# Altium schematic symbol library MCU_Microchip_AVR_Dx.SchLib: 50 symbols (part 1 of 2)
Pins are listed as number, name and electrical type; pins without a type are passive.

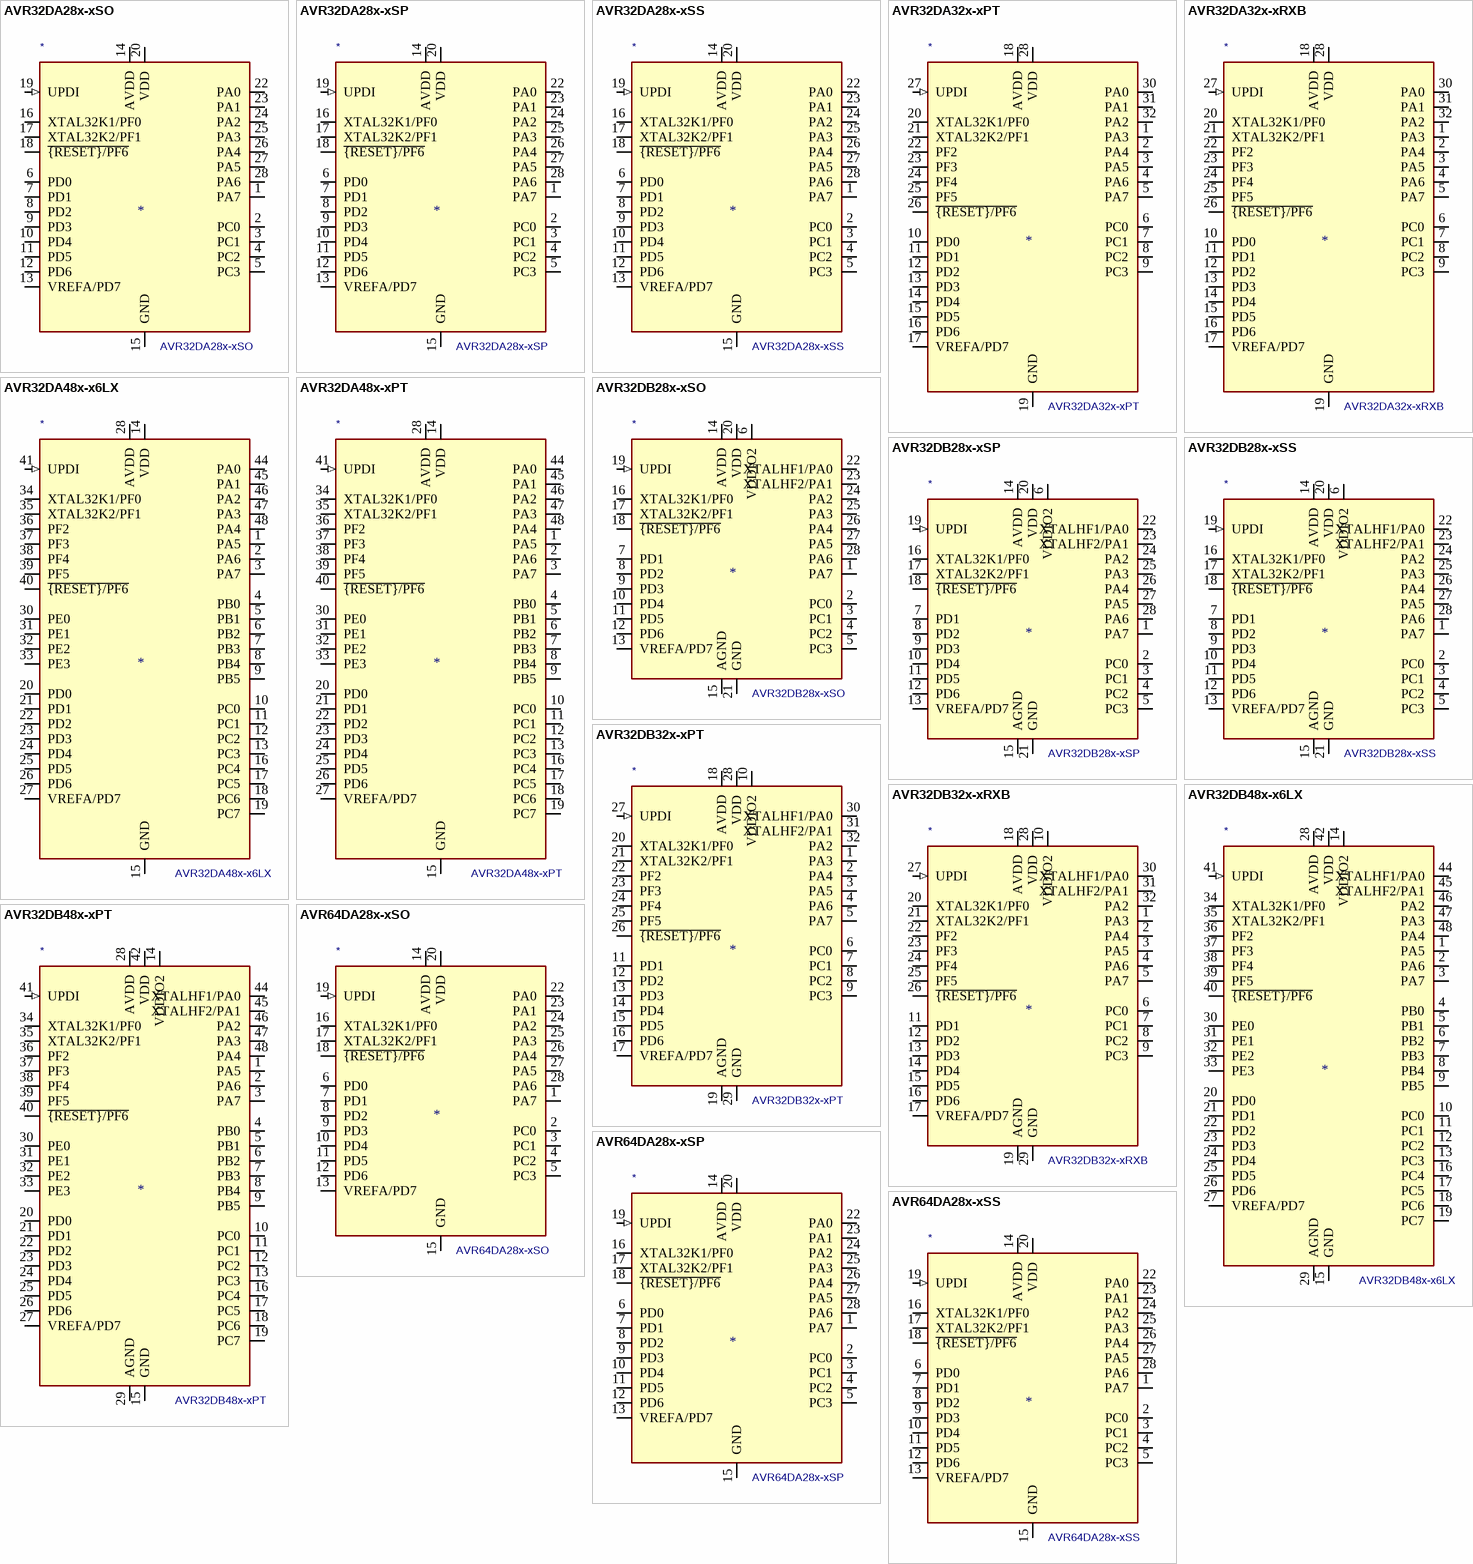
[diagram p0: symbols AVR32DA28x-xSO to AVR64DA28x-xSS]

## AVR32DA28x-xSO
designator *  value AVR32DA28x-xSO
ki_keywords: AVR 8bit Microcontroller AVR-DA; ki_description: 24MHz, 32kB Flash, 4kB SRAM, EEPROM with Touch Sensing, SOIC-28; ki_fp_filters: SOIC*7.5x17.9mm*P1.27mm*; Footprint: Package_SO:SOIC-28W_7.5x17.9mm_P1.27mm; Supplier: https://ww1.microchip.com/downloads/en/DeviceDoc/AVR32DA28-32-48-Data-Sheet-40002228B.pdf
footprint SOIC-28W_7.5x17.9mm_P1.27mm
pins: 1 PA7 (io), 2 PC0 (io), 3 PC1 (io), 4 PC2 (io), 5 PC3 (io), 6 PD0 (io), 7 PD1 (io), 8 PD2 (io), 9 PD3 (io), 10 PD4 (io), 11 PD5 (io), 12 PD6 (io), 13 VREFA/PD7 (io), 14 AVDD (power), 15 GND (power), 16 XTAL32K1/PF0 (io), 17 XTAL32K2/PF1 (io), 18 ~{{RESET}/PF6} (io), 19 UPDI (in), 20 VDD (power), 21 GND hidden, 22 PA0 (io), 23 PA1 (io), 24 PA2 (io), 25 PA3 (io), 26 PA4 (io), 27 PA5 (io), 28 PA6 (io)

## AVR32DA28x-xSP
designator *  value AVR32DA28x-xSP
ki_keywords: AVR 8bit Microcontroller AVR-DA; ki_description: 24MHz, 32kB Flash, 4kB SRAM, EEPROM with Touch Sensing, SPDIP-28; ki_fp_filters: DIP*W7.62mm*; Footprint: Package_DIP:DIP-28_W7.62mm; Supplier: https://ww1.microchip.com/downloads/en/DeviceDoc/AVR32DA28-32-48-Data-Sheet-40002228B.pdf
footprint DIP-28_W7.62mm
pins: 1 PA7 (io), 2 PC0 (io), 3 PC1 (io), 4 PC2 (io), 5 PC3 (io), 6 PD0 (io), 7 PD1 (io), 8 PD2 (io), 9 PD3 (io), 10 PD4 (io), 11 PD5 (io), 12 PD6 (io), 13 VREFA/PD7 (io), 14 AVDD (power), 15 GND (power), 16 XTAL32K1/PF0 (io), 17 XTAL32K2/PF1 (io), 18 ~{{RESET}/PF6} (io), 19 UPDI (in), 20 VDD (power), 21 GND hidden, 22 PA0 (io), 23 PA1 (io), 24 PA2 (io), 25 PA3 (io), 26 PA4 (io), 27 PA5 (io), 28 PA6 (io)

## AVR32DA28x-xSS
designator *  value AVR32DA28x-xSS
ki_keywords: AVR 8bit Microcontroller AVR-DA; ki_description: 24MHz, 32kB Flash, 4kB SRAM, EEPROM with Touch Sensing, SSOP-28; ki_fp_filters: SSOP*5.3x10.2mm*P0.65mm*; Footprint: Package_SO:SSOP-28_5.3x10.2mm_P0.65mm; Supplier: https://ww1.microchip.com/downloads/en/DeviceDoc/AVR32DA28-32-48-Data-Sheet-40002228B.pdf
footprint SSOP-28_5.3x10.2mm_P0.65mm
pins: 1 PA7 (io), 2 PC0 (io), 3 PC1 (io), 4 PC2 (io), 5 PC3 (io), 6 PD0 (io), 7 PD1 (io), 8 PD2 (io), 9 PD3 (io), 10 PD4 (io), 11 PD5 (io), 12 PD6 (io), 13 VREFA/PD7 (io), 14 AVDD (power), 15 GND (power), 16 XTAL32K1/PF0 (io), 17 XTAL32K2/PF1 (io), 18 ~{{RESET}/PF6} (io), 19 UPDI (in), 20 VDD (power), 21 GND hidden, 22 PA0 (io), 23 PA1 (io), 24 PA2 (io), 25 PA3 (io), 26 PA4 (io), 27 PA5 (io), 28 PA6 (io)

## AVR32DA32x-xPT
designator *  value AVR32DA32x-xPT
ki_keywords: AVR 8bit Microcontroller AVR-DA; ki_description: 24MHz, 32kB Flash, 4kB SRAM, EEPROM with Touch Sensing, TQFP-32; ki_fp_filters: TQFP*7x7mm*P0.8mm*; Footprint: Package_QFP:TQFP-32_7x7mm_P0.8mm; Supplier: https://ww1.microchip.com/downloads/en/DeviceDoc/AVR32DA28-32-48-Data-Sheet-40002228B.pdf
footprint TQFP-32_7x7mm_P0.8mm
pins: 1 PA3 (io), 2 PA4 (io), 3 PA5 (io), 4 PA6 (io), 5 PA7 (io), 6 PC0 (io), 7 PC1 (io), 8 PC2 (io), 9 PC3 (io), 10 PD0 (io), 11 PD1 (io), 12 PD2 (io), 13 PD3 (io), 14 PD4 (io), 15 PD5 (io), 16 PD6 (io), 17 VREFA/PD7 (io), 18 AVDD (power), 19 GND (power), 20 XTAL32K1/PF0 (io), 21 XTAL32K2/PF1 (io), 22 PF2 (io), 23 PF3 (io), 24 PF4 (io), 25 PF5 (io), 26 ~{{RESET}/PF6} (io), 27 UPDI (in), 28 VDD (power), 29 GND hidden, 30 PA0 (io), 31 PA1 (io), 32 PA2 (io)

## AVR32DA32x-xRXB
designator *  value AVR32DA32x-xRXB
ki_keywords: AVR 8bit Microcontroller AVR-DA; ki_description: 24MHz, 32kB Flash, 4kB SRAM, EEPROM with Touch Sensing, VQFN-32; ki_fp_filters: QFN*1EP*5x5mm*P0.5mm*EP3.1x3.1mm*; Footprint: Package_DFN_QFN:QFN-32-1EP_5x5mm_P0.5mm_EP3.1x3.1mm; Supplier: https://ww1.microchip.com/downloads/en/DeviceDoc/AVR32DA28-32-48-Data-Sheet-40002228B.pdf
footprint QFN-32-1EP_5x5mm_P0.5mm_EP3.1x3.1mm
pins: 1 PA3 (io), 2 PA4 (io), 3 PA5 (io), 4 PA6 (io), 5 PA7 (io), 6 PC0 (io), 7 PC1 (io), 8 PC2 (io), 9 PC3 (io), 10 PD0 (io), 11 PD1 (io), 12 PD2 (io), 13 PD3 (io), 14 PD4 (io), 15 PD5 (io), 16 PD6 (io), 17 VREFA/PD7 (io), 18 AVDD (power), 19 GND (power), 20 XTAL32K1/PF0 (io), 21 XTAL32K2/PF1 (io), 22 PF2 (io), 23 PF3 (io), 24 PF4 (io), 25 PF5 (io), 26 ~{{RESET}/PF6} (io), 27 UPDI (in), 28 VDD (power), 29 GND hidden, 30 PA0 (io), 31 PA1 (io), 32 PA2 (io), 33 GND hidden

## AVR32DA48x-x6LX
designator *  value AVR32DA48x-x6LX
ki_keywords: AVR 8bit Microcontroller AVR-DA; ki_description: 24MHz, 32kB Flash, 4kB SRAM, EEPROM with Touch Sensing, VQFN-48; ki_fp_filters: QFN*1EP*6x6mm*P0.4mm*EP4.2x4.2mm*; Footprint: Package_DFN_QFN:QFN-48-1EP_6x6mm_P0.4mm_EP4.2x4.2mm; Supplier: https://ww1.microchip.com/downloads/en/DeviceDoc/AVR32DA28-32-48-Data-Sheet-40002228B.pdf
footprint QFN-48-1EP_6x6mm_P0.4mm_EP4.2x4.2mm
pins: 1 PA5 (io), 2 PA6 (io), 3 PA7 (io), 4 PB0 (io), 5 PB1 (io), 6 PB2 (io), 7 PB3 (io), 8 PB4 (io), 9 PB5 (io), 10 PC0 (io), 11 PC1 (io), 12 PC2 (io), 13 PC3 (io), 14 VDD (power), 15 GND (power), 16 PC4 (io), 17 PC5 (io), 18 PC6 (io), 19 PC7 (io), 20 PD0 (io), 21 PD1 (io), 22 PD2 (io), 23 PD3 (io), 24 PD4 (io), 25 PD5 (io), 26 PD6 (io), 27 VREFA/PD7 (io), 28 AVDD (power), 29 GND hidden, 30 PE0 (io), 31 PE1 (io), 32 PE2 (io), 33 PE3 (io), 34 XTAL32K1/PF0 (io), 35 XTAL32K2/PF1 (io), 36 PF2 (io), 37 PF3 (io), 38 PF4 (io), 39 PF5 (io), 40 ~{{RESET}/PF6} (io), 41 UPDI (in), 42 VDD hidden, 43 GND hidden, 44 PA0 (io), 45 PA1 (io), 46 PA2 (io), 47 PA3 (io), 48 PA4 (io), 49 GND hidden

## AVR32DA48x-xPT
designator *  value AVR32DA48x-xPT
ki_keywords: AVR 8bit Microcontroller AVR-DA; ki_description: 24MHz, 32kB Flash, 4kB SRAM, EEPROM with Touch Sensing, TQFP-48; ki_fp_filters: TQFP*7x7mm*P0.5mm*; Footprint: Package_QFP:TQFP-48_7x7mm_P0.5mm; Supplier: https://ww1.microchip.com/downloads/en/DeviceDoc/AVR32DA28-32-48-Data-Sheet-40002228B.pdf
footprint TQFP-48_7x7mm_P0.5mm
pins: 1 PA5 (io), 2 PA6 (io), 3 PA7 (io), 4 PB0 (io), 5 PB1 (io), 6 PB2 (io), 7 PB3 (io), 8 PB4 (io), 9 PB5 (io), 10 PC0 (io), 11 PC1 (io), 12 PC2 (io), 13 PC3 (io), 14 VDD (power), 15 GND (power), 16 PC4 (io), 17 PC5 (io), 18 PC6 (io), 19 PC7 (io), 20 PD0 (io), 21 PD1 (io), 22 PD2 (io), 23 PD3 (io), 24 PD4 (io), 25 PD5 (io), 26 PD6 (io), 27 VREFA/PD7 (io), 28 AVDD (power), 29 GND hidden, 30 PE0 (io), 31 PE1 (io), 32 PE2 (io), 33 PE3 (io), 34 XTAL32K1/PF0 (io), 35 XTAL32K2/PF1 (io), 36 PF2 (io), 37 PF3 (io), 38 PF4 (io), 39 PF5 (io), 40 ~{{RESET}/PF6} (io), 41 UPDI (in), 42 VDD hidden, 43 GND hidden, 44 PA0 (io), 45 PA1 (io), 46 PA2 (io), 47 PA3 (io), 48 PA4 (io)

## AVR32DB28x-xSO
designator *  value AVR32DB28x-xSO
ki_keywords: AVR 8bit Microcontroller AVR-DB; ki_description: 24MHz, 32kB Flash, 4kB SRAM, EEPROM with Op Amps and Multi-Voltage I/O, SOIC-28; ki_fp_filters: SOIC*7.5x17.9mm*P1.27mm*; Footprint: Package_SO:SOIC-28W_7.5x17.9mm_P1.27mm; Supplier: https://ww1.microchip.com/downloads/en/DeviceDoc/AVR32DB28-32-48-DataSheet-DS40002301A.pdf
footprint SOIC-28W_7.5x17.9mm_P1.27mm
pins: 1 PA7 (io), 2 PC0 (io), 3 PC1 (io), 4 PC2 (io), 5 PC3 (io), 6 VDDIO2 (power), 7 PD1 (io), 8 PD2 (io), 9 PD3 (io), 10 PD4 (io), 11 PD5 (io), 12 PD6 (io), 13 VREFA/PD7 (io), 14 AVDD (power), 15 AGND (power), 16 XTAL32K1/PF0 (io), 17 XTAL32K2/PF1 (io), 18 ~{{RESET}/PF6} (io), 19 UPDI (in), 20 VDD (power), 21 GND (power), 22 XTALHF1/PA0 (io), 23 XTALHF2/PA1 (io), 24 PA2 (io), 25 PA3 (io), 26 PA4 (io), 27 PA5 (io), 28 PA6 (io)

## AVR32DB28x-xSP
designator *  value AVR32DB28x-xSP
ki_keywords: AVR 8bit Microcontroller AVR-DB; ki_description: 24MHz, 32kB Flash, 4kB SRAM, EEPROM with Op Amps and Multi-Voltage I/O, SPDIP-28; ki_fp_filters: DIP*W7.62mm*; Footprint: Package_DIP:DIP-28_W7.62mm; Supplier: https://ww1.microchip.com/downloads/en/DeviceDoc/AVR32DB28-32-48-DataSheet-DS40002301A.pdf
footprint DIP-28_W7.62mm
pins: 1 PA7 (io), 2 PC0 (io), 3 PC1 (io), 4 PC2 (io), 5 PC3 (io), 6 VDDIO2 (power), 7 PD1 (io), 8 PD2 (io), 9 PD3 (io), 10 PD4 (io), 11 PD5 (io), 12 PD6 (io), 13 VREFA/PD7 (io), 14 AVDD (power), 15 AGND (power), 16 XTAL32K1/PF0 (io), 17 XTAL32K2/PF1 (io), 18 ~{{RESET}/PF6} (io), 19 UPDI (in), 20 VDD (power), 21 GND (power), 22 XTALHF1/PA0 (io), 23 XTALHF2/PA1 (io), 24 PA2 (io), 25 PA3 (io), 26 PA4 (io), 27 PA5 (io), 28 PA6 (io)

## AVR32DB28x-xSS
designator *  value AVR32DB28x-xSS
ki_keywords: AVR 8bit Microcontroller AVR-DB; ki_description: 24MHz, 32kB Flash, 4kB SRAM, EEPROM with Op Amps and Multi-Voltage I/O, SSOP-28; ki_fp_filters: SSOP*5.3x10.2mm*P0.65mm*; Footprint: Package_SO:SSOP-28_5.3x10.2mm_P0.65mm; Supplier: https://ww1.microchip.com/downloads/en/DeviceDoc/AVR32DB28-32-48-DataSheet-DS40002301A.pdf
footprint SSOP-28_5.3x10.2mm_P0.65mm
pins: 1 PA7 (io), 2 PC0 (io), 3 PC1 (io), 4 PC2 (io), 5 PC3 (io), 6 VDDIO2 (power), 7 PD1 (io), 8 PD2 (io), 9 PD3 (io), 10 PD4 (io), 11 PD5 (io), 12 PD6 (io), 13 VREFA/PD7 (io), 14 AVDD (power), 15 AGND (power), 16 XTAL32K1/PF0 (io), 17 XTAL32K2/PF1 (io), 18 ~{{RESET}/PF6} (io), 19 UPDI (in), 20 VDD (power), 21 GND (power), 22 XTALHF1/PA0 (io), 23 XTALHF2/PA1 (io), 24 PA2 (io), 25 PA3 (io), 26 PA4 (io), 27 PA5 (io), 28 PA6 (io)

## AVR32DB32x-xPT
designator *  value AVR32DB32x-xPT
ki_keywords: AVR 8bit Microcontroller AVR-DB; ki_description: 24MHz, 32kB Flash, 4kB SRAM, EEPROM with Op Amps and Multi-Voltage I/O, TQFP-32; ki_fp_filters: TQFP*7x7mm*P0.8mm*; Footprint: Package_QFP:TQFP-32_7x7mm_P0.8mm; Supplier: https://ww1.microchip.com/downloads/en/DeviceDoc/AVR32DB28-32-48-DataSheet-DS40002301A.pdf
footprint TQFP-32_7x7mm_P0.8mm
pins: 1 PA3 (io), 2 PA4 (io), 3 PA5 (io), 4 PA6 (io), 5 PA7 (io), 6 PC0 (io), 7 PC1 (io), 8 PC2 (io), 9 PC3 (io), 10 VDDIO2 (power), 11 PD1 (io), 12 PD2 (io), 13 PD3 (io), 14 PD4 (io), 15 PD5 (io), 16 PD6 (io), 17 VREFA/PD7 (io), 18 AVDD (power), 19 AGND (power), 20 XTAL32K1/PF0 (io), 21 XTAL32K2/PF1 (io), 22 PF2 (io), 23 PF3 (io), 24 PF4 (io), 25 PF5 (io), 26 ~{{RESET}/PF6} (io), 27 UPDI (in), 28 VDD (power), 29 GND (power), 30 XTALHF1/PA0 (io), 31 XTALHF2/PA1 (io), 32 PA2 (io)

## AVR32DB32x-xRXB
designator *  value AVR32DB32x-xRXB
ki_keywords: AVR 8bit Microcontroller AVR-DB; ki_description: 24MHz, 32kB Flash, 4kB SRAM, EEPROM with Op Amps and Multi-Voltage I/O, VQFN-32; ki_fp_filters: QFN*1EP*5x5mm*P0.5mm*EP3.1x3.1mm*; Footprint: Package_DFN_QFN:QFN-32-1EP_5x5mm_P0.5mm_EP3.1x3.1mm; Supplier: https://ww1.microchip.com/downloads/en/DeviceDoc/AVR32DB28-32-48-DataSheet-DS40002301A.pdf
footprint QFN-32-1EP_5x5mm_P0.5mm_EP3.1x3.1mm
pins: 1 PA3 (io), 2 PA4 (io), 3 PA5 (io), 4 PA6 (io), 5 PA7 (io), 6 PC0 (io), 7 PC1 (io), 8 PC2 (io), 9 PC3 (io), 10 VDDIO2 (power), 11 PD1 (io), 12 PD2 (io), 13 PD3 (io), 14 PD4 (io), 15 PD5 (io), 16 PD6 (io), 17 VREFA/PD7 (io), 18 AVDD (power), 19 AGND (power), 20 XTAL32K1/PF0 (io), 21 XTAL32K2/PF1 (io), 22 PF2 (io), 23 PF3 (io), 24 PF4 (io), 25 PF5 (io), 26 ~{{RESET}/PF6} (io), 27 UPDI (in), 28 VDD (power), 29 GND (power), 30 XTALHF1/PA0 (io), 31 XTALHF2/PA1 (io), 32 PA2 (io), 33 GND hidden

## AVR32DB48x-x6LX
designator *  value AVR32DB48x-x6LX
ki_keywords: AVR 8bit Microcontroller AVR-DB; ki_description: 24MHz, 32kB Flash, 4kB SRAM, EEPROM with Op Amps and Multi-Voltage I/O, VQFN-48; ki_fp_filters: QFN*1EP*6x6mm*P0.4mm*EP4.2x4.2mm*; Footprint: Package_DFN_QFN:QFN-48-1EP_6x6mm_P0.4mm_EP4.2x4.2mm; Supplier: https://ww1.microchip.com/downloads/en/DeviceDoc/AVR32DB28-32-48-DataSheet-DS40002301A.pdf
footprint QFN-48-1EP_6x6mm_P0.4mm_EP4.2x4.2mm
pins: 1 PA5 (io), 2 PA6 (io), 3 PA7 (io), 4 PB0 (io), 5 PB1 (io), 6 PB2 (io), 7 PB3 (io), 8 PB4 (io), 9 PB5 (io), 10 PC0 (io), 11 PC1 (io), 12 PC2 (io), 13 PC3 (io), 14 VDDIO2 (power), 15 GND (power), 16 PC4 (io), 17 PC5 (io), 18 PC6 (io), 19 PC7 (io), 20 PD0 (io), 21 PD1 (io), 22 PD2 (io), 23 PD3 (io), 24 PD4 (io), 25 PD5 (io), 26 PD6 (io), 27 VREFA/PD7 (io), 28 AVDD (power), 29 AGND (power), 30 PE0 (io), 31 PE1 (io), 32 PE2 (io), 33 PE3 (io), 34 XTAL32K1/PF0 (io), 35 XTAL32K2/PF1 (io), 36 PF2 (io), 37 PF3 (io), 38 PF4 (io), 39 PF5 (io), 40 ~{{RESET}/PF6} (io), 41 UPDI (in), 42 VDD (power), 43 GND hidden, 44 XTALHF1/PA0 (io), 45 XTALHF2/PA1 (io), 46 PA2 (io), 47 PA3 (io), 48 PA4 (io), 49 GND hidden

## AVR32DB48x-xPT
designator *  value AVR32DB48x-xPT
ki_keywords: AVR 8bit Microcontroller AVR-DB; ki_description: 24MHz, 32kB Flash, 4kB SRAM, EEPROM with Op Amps and Multi-Voltage I/O, TQFP-48; ki_fp_filters: TQFP*7x7mm*P0.5mm*; Footprint: Package_QFP:TQFP-48_7x7mm_P0.5mm; Supplier: https://ww1.microchip.com/downloads/en/DeviceDoc/AVR32DB28-32-48-DataSheet-DS40002301A.pdf
footprint TQFP-48_7x7mm_P0.5mm
pins: 1 PA5 (io), 2 PA6 (io), 3 PA7 (io), 4 PB0 (io), 5 PB1 (io), 6 PB2 (io), 7 PB3 (io), 8 PB4 (io), 9 PB5 (io), 10 PC0 (io), 11 PC1 (io), 12 PC2 (io), 13 PC3 (io), 14 VDDIO2 (power), 15 GND (power), 16 PC4 (io), 17 PC5 (io), 18 PC6 (io), 19 PC7 (io), 20 PD0 (io), 21 PD1 (io), 22 PD2 (io), 23 PD3 (io), 24 PD4 (io), 25 PD5 (io), 26 PD6 (io), 27 VREFA/PD7 (io), 28 AVDD (power), 29 AGND (power), 30 PE0 (io), 31 PE1 (io), 32 PE2 (io), 33 PE3 (io), 34 XTAL32K1/PF0 (io), 35 XTAL32K2/PF1 (io), 36 PF2 (io), 37 PF3 (io), 38 PF4 (io), 39 PF5 (io), 40 ~{{RESET}/PF6} (io), 41 UPDI (in), 42 VDD (power), 43 GND hidden, 44 XTALHF1/PA0 (io), 45 XTALHF2/PA1 (io), 46 PA2 (io), 47 PA3 (io), 48 PA4 (io)

## AVR64DA28x-xSO
designator *  value AVR64DA28x-xSO
ki_keywords: AVR 8bit Microcontroller AVR-DA; ki_description: 24MHz, 64kB Flash, 8kB SRAM, EEPROM with Touch Sensing, SOIC-28; ki_fp_filters: SOIC*7.5x17.9mm*P1.27mm*; Footprint: Package_SO:SOIC-28W_7.5x17.9mm_P1.27mm; Supplier: https://ww1.microchip.com/downloads/en/DeviceDoc/AVR64DA28-32-48-64-Data-Sheet-40002233B.pdf
footprint SOIC-28W_7.5x17.9mm_P1.27mm
pins: 1 PA7 (io), 2 PC0 (io), 3 PC1 (io), 4 PC2 (io), 5 PC3 (io), 6 PD0 (io), 7 PD1 (io), 8 PD2 (io), 9 PD3 (io), 10 PD4 (io), 11 PD5 (io), 12 PD6 (io), 13 VREFA/PD7 (io), 14 AVDD (power), 15 GND (power), 16 XTAL32K1/PF0 (io), 17 XTAL32K2/PF1 (io), 18 ~{{RESET}/PF6} (io), 19 UPDI (in), 20 VDD (power), 21 GND hidden, 22 PA0 (io), 23 PA1 (io), 24 PA2 (io), 25 PA3 (io), 26 PA4 (io), 27 PA5 (io), 28 PA6 (io)

## AVR64DA28x-xSP
designator *  value AVR64DA28x-xSP
ki_keywords: AVR 8bit Microcontroller AVR-DA; ki_description: 24MHz, 64kB Flash, 8kB SRAM, EEPROM with Touch Sensing, SPDIP-28; ki_fp_filters: DIP*W7.62mm*; Footprint: Package_DIP:DIP-28_W7.62mm; Supplier: https://ww1.microchip.com/downloads/en/DeviceDoc/AVR64DA28-32-48-64-Data-Sheet-40002233B.pdf
footprint DIP-28_W7.62mm
pins: 1 PA7 (io), 2 PC0 (io), 3 PC1 (io), 4 PC2 (io), 5 PC3 (io), 6 PD0 (io), 7 PD1 (io), 8 PD2 (io), 9 PD3 (io), 10 PD4 (io), 11 PD5 (io), 12 PD6 (io), 13 VREFA/PD7 (io), 14 AVDD (power), 15 GND (power), 16 XTAL32K1/PF0 (io), 17 XTAL32K2/PF1 (io), 18 ~{{RESET}/PF6} (io), 19 UPDI (in), 20 VDD (power), 21 GND hidden, 22 PA0 (io), 23 PA1 (io), 24 PA2 (io), 25 PA3 (io), 26 PA4 (io), 27 PA5 (io), 28 PA6 (io)

## AVR64DA28x-xSS
designator *  value AVR64DA28x-xSS
ki_keywords: AVR 8bit Microcontroller AVR-DA; ki_description: 24MHz, 64kB Flash, 8kB SRAM, EEPROM with Touch Sensing, SSOP-28; ki_fp_filters: SSOP*5.3x10.2mm*P0.65mm*; Footprint: Package_SO:SSOP-28_5.3x10.2mm_P0.65mm; Supplier: https://ww1.microchip.com/downloads/en/DeviceDoc/AVR64DA28-32-48-64-Data-Sheet-40002233B.pdf
footprint SSOP-28_5.3x10.2mm_P0.65mm
pins: 1 PA7 (io), 2 PC0 (io), 3 PC1 (io), 4 PC2 (io), 5 PC3 (io), 6 PD0 (io), 7 PD1 (io), 8 PD2 (io), 9 PD3 (io), 10 PD4 (io), 11 PD5 (io), 12 PD6 (io), 13 VREFA/PD7 (io), 14 AVDD (power), 15 GND (power), 16 XTAL32K1/PF0 (io), 17 XTAL32K2/PF1 (io), 18 ~{{RESET}/PF6} (io), 19 UPDI (in), 20 VDD (power), 21 GND hidden, 22 PA0 (io), 23 PA1 (io), 24 PA2 (io), 25 PA3 (io), 26 PA4 (io), 27 PA5 (io), 28 PA6 (io)

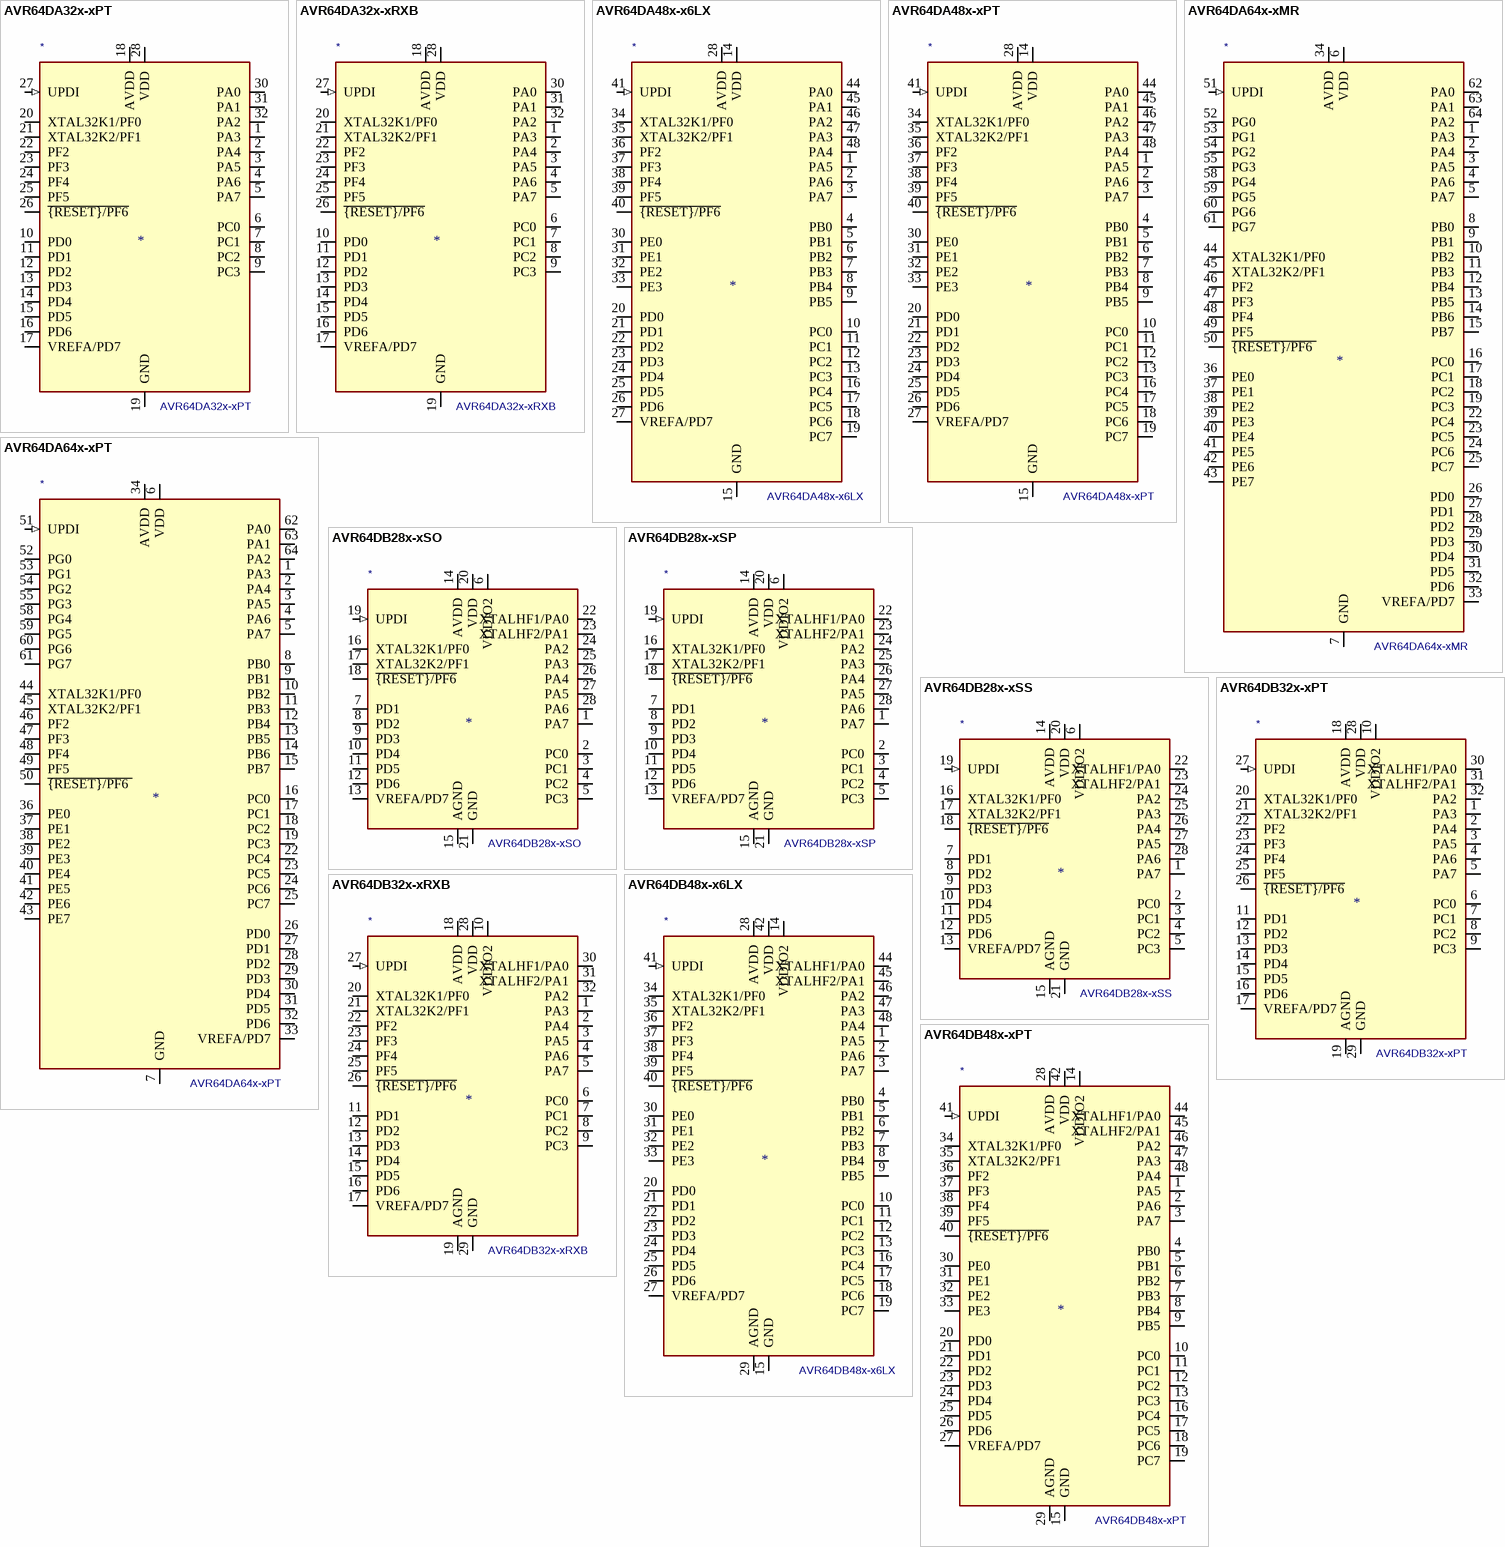
[diagram p1: symbols AVR64DA32x-xPT to AVR64DB48x-xPT]

## AVR64DA32x-xPT
designator *  value AVR64DA32x-xPT
ki_keywords: AVR 8bit Microcontroller AVR-DA; ki_description: 24MHz, 64kB Flash, 8kB SRAM, EEPROM with Touch Sensing, TQFP-32; ki_fp_filters: TQFP*7x7mm*P0.8mm*; Footprint: Package_QFP:TQFP-32_7x7mm_P0.8mm; Supplier: https://ww1.microchip.com/downloads/en/DeviceDoc/AVR64DA28-32-48-64-Data-Sheet-40002233B.pdf
footprint TQFP-32_7x7mm_P0.8mm
pins: 1 PA3 (io), 2 PA4 (io), 3 PA5 (io), 4 PA6 (io), 5 PA7 (io), 6 PC0 (io), 7 PC1 (io), 8 PC2 (io), 9 PC3 (io), 10 PD0 (io), 11 PD1 (io), 12 PD2 (io), 13 PD3 (io), 14 PD4 (io), 15 PD5 (io), 16 PD6 (io), 17 VREFA/PD7 (io), 18 AVDD (power), 19 GND (power), 20 XTAL32K1/PF0 (io), 21 XTAL32K2/PF1 (io), 22 PF2 (io), 23 PF3 (io), 24 PF4 (io), 25 PF5 (io), 26 ~{{RESET}/PF6} (io), 27 UPDI (in), 28 VDD (power), 29 GND hidden, 30 PA0 (io), 31 PA1 (io), 32 PA2 (io)

## AVR64DA32x-xRXB
designator *  value AVR64DA32x-xRXB
ki_keywords: AVR 8bit Microcontroller AVR-DA; ki_description: 24MHz, 64kB Flash, 8kB SRAM, EEPROM with Touch Sensing, VQFN-32; ki_fp_filters: QFN*1EP*5x5mm*P0.5mm*EP3.1x3.1mm*; Footprint: Package_DFN_QFN:QFN-32-1EP_5x5mm_P0.5mm_EP3.1x3.1mm; Supplier: https://ww1.microchip.com/downloads/en/DeviceDoc/AVR64DA28-32-48-64-Data-Sheet-40002233B.pdf
footprint QFN-32-1EP_5x5mm_P0.5mm_EP3.1x3.1mm
pins: 1 PA3 (io), 2 PA4 (io), 3 PA5 (io), 4 PA6 (io), 5 PA7 (io), 6 PC0 (io), 7 PC1 (io), 8 PC2 (io), 9 PC3 (io), 10 PD0 (io), 11 PD1 (io), 12 PD2 (io), 13 PD3 (io), 14 PD4 (io), 15 PD5 (io), 16 PD6 (io), 17 VREFA/PD7 (io), 18 AVDD (power), 19 GND (power), 20 XTAL32K1/PF0 (io), 21 XTAL32K2/PF1 (io), 22 PF2 (io), 23 PF3 (io), 24 PF4 (io), 25 PF5 (io), 26 ~{{RESET}/PF6} (io), 27 UPDI (in), 28 VDD (power), 29 GND hidden, 30 PA0 (io), 31 PA1 (io), 32 PA2 (io), 33 GND hidden

## AVR64DA48x-x6LX
designator *  value AVR64DA48x-x6LX
ki_keywords: AVR 8bit Microcontroller AVR-DA; ki_description: 24MHz, 64kB Flash, 8kB SRAM, EEPROM with Touch Sensing, VQFN-48; ki_fp_filters: QFN*1EP*6x6mm*P0.4mm*EP4.2x4.2mm*; Footprint: Package_DFN_QFN:QFN-48-1EP_6x6mm_P0.4mm_EP4.2x4.2mm; Supplier: https://ww1.microchip.com/downloads/en/DeviceDoc/AVR64DA28-32-48-64-Data-Sheet-40002233B.pdf
footprint QFN-48-1EP_6x6mm_P0.4mm_EP4.2x4.2mm
pins: 1 PA5 (io), 2 PA6 (io), 3 PA7 (io), 4 PB0 (io), 5 PB1 (io), 6 PB2 (io), 7 PB3 (io), 8 PB4 (io), 9 PB5 (io), 10 PC0 (io), 11 PC1 (io), 12 PC2 (io), 13 PC3 (io), 14 VDD (power), 15 GND (power), 16 PC4 (io), 17 PC5 (io), 18 PC6 (io), 19 PC7 (io), 20 PD0 (io), 21 PD1 (io), 22 PD2 (io), 23 PD3 (io), 24 PD4 (io), 25 PD5 (io), 26 PD6 (io), 27 VREFA/PD7 (io), 28 AVDD (power), 29 GND hidden, 30 PE0 (io), 31 PE1 (io), 32 PE2 (io), 33 PE3 (io), 34 XTAL32K1/PF0 (io), 35 XTAL32K2/PF1 (io), 36 PF2 (io), 37 PF3 (io), 38 PF4 (io), 39 PF5 (io), 40 ~{{RESET}/PF6} (io), 41 UPDI (in), 42 VDD hidden, 43 GND hidden, 44 PA0 (io), 45 PA1 (io), 46 PA2 (io), 47 PA3 (io), 48 PA4 (io), 49 GND hidden

## AVR64DA48x-xPT
designator *  value AVR64DA48x-xPT
ki_keywords: AVR 8bit Microcontroller AVR-DA; ki_description: 24MHz, 64kB Flash, 8kB SRAM, EEPROM with Touch Sensing, TQFP-48; ki_fp_filters: TQFP*7x7mm*P0.5mm*; Footprint: Package_QFP:TQFP-48_7x7mm_P0.5mm; Supplier: https://ww1.microchip.com/downloads/en/DeviceDoc/AVR64DA28-32-48-64-Data-Sheet-40002233B.pdf
footprint TQFP-48_7x7mm_P0.5mm
pins: 1 PA5 (io), 2 PA6 (io), 3 PA7 (io), 4 PB0 (io), 5 PB1 (io), 6 PB2 (io), 7 PB3 (io), 8 PB4 (io), 9 PB5 (io), 10 PC0 (io), 11 PC1 (io), 12 PC2 (io), 13 PC3 (io), 14 VDD (power), 15 GND (power), 16 PC4 (io), 17 PC5 (io), 18 PC6 (io), 19 PC7 (io), 20 PD0 (io), 21 PD1 (io), 22 PD2 (io), 23 PD3 (io), 24 PD4 (io), 25 PD5 (io), 26 PD6 (io), 27 VREFA/PD7 (io), 28 AVDD (power), 29 GND hidden, 30 PE0 (io), 31 PE1 (io), 32 PE2 (io), 33 PE3 (io), 34 XTAL32K1/PF0 (io), 35 XTAL32K2/PF1 (io), 36 PF2 (io), 37 PF3 (io), 38 PF4 (io), 39 PF5 (io), 40 ~{{RESET}/PF6} (io), 41 UPDI (in), 42 VDD hidden, 43 GND hidden, 44 PA0 (io), 45 PA1 (io), 46 PA2 (io), 47 PA3 (io), 48 PA4 (io)

## AVR64DA64x-xMR
designator *  value AVR64DA64x-xMR
ki_keywords: AVR 8bit Microcontroller AVR-DA; ki_description: 24MHz, 64kB Flash, 8kB SRAM, EEPROM with Touch Sensing, VQFN-64; ki_fp_filters: VQFN*1EP*9x9mm*P0.5mm*EP7.15x7.15mm*; Footprint: Package_DFN_QFN:VQFN-64-1EP_9x9mm_P0.5mm_EP7.15x7.15mm; Supplier: https://ww1.microchip.com/downloads/en/DeviceDoc/AVR64DA28-32-48-64-Data-Sheet-40002233B.pdf
footprint VQFN-64-1EP_9x9mm_P0.5mm_EP7.15x7.15mm
pins: 1 PA3 (io), 2 PA4 (io), 3 PA5 (io), 4 PA6 (io), 5 PA7 (io), 6 VDD (power), 7 GND (power), 8 PB0 (io), 9 PB1 (io), 10 PB2 (io), 11 PB3 (io), 12 PB4 (io), 13 PB5 (io), 14 PB6 (io), 15 PB7 (io), 16 PC0 (io), 17 PC1 (io), 18 PC2 (io), 19 PC3 (io), 20 VDD hidden, 21 GND hidden, 22 PC4 (io), 23 PC5 (io), 24 PC6 (io), 25 PC7 (io), 26 PD0 (io), 27 PD1 (io), 28 PD2 (io), 29 PD3 (io), 30 PD4 (io), 31 PD5 (io), 32 PD6 (io), 33 VREFA/PD7 (io), 34 AVDD (power), 35 GND hidden, 36 PE0 (io), 37 PE1 (io), 38 PE2 (io), 39 PE3 (io), 40 PE4 (io), 41 PE5 (io), 42 PE6 (io), 43 PE7 (io), 44 XTAL32K1/PF0 (io), 45 XTAL32K2/PF1 (io), 46 PF2 (io), 47 PF3 (io), 48 PF4 (io), 49 PF5 (io), 50 ~{{RESET}/PF6 } (io), 51 UPDI (in), 52 PG0 (io), 53 PG1 (io), 54 PG2 (io), 55 PG3 (io), 56 VDD hidden, 57 GND hidden, 58 PG4 (io), 59 PG5 (io), 60 PG6 (io), 61 PG7 (io), 62 PA0 (io), 63 PA1 (io), 64 PA2 (io), 65 GND hidden

## AVR64DA64x-xPT
designator *  value AVR64DA64x-xPT
ki_keywords: AVR 8bit Microcontroller AVR-DA; ki_description: 24MHz, 64kB Flash, 8kB SRAM, EEPROM with Touch Sensing, TQFP-64; ki_fp_filters: TQFP*10x10mm*P0.5mm*; Footprint: Package_QFP:TQFP-64_10x10mm_P0.5mm; Supplier: https://ww1.microchip.com/downloads/en/DeviceDoc/AVR64DA28-32-48-64-Data-Sheet-40002233B.pdf
footprint TQFP-64_10x10mm_P0.5mm
pins: 1 PA3 (io), 2 PA4 (io), 3 PA5 (io), 4 PA6 (io), 5 PA7 (io), 6 VDD (power), 7 GND (power), 8 PB0 (io), 9 PB1 (io), 10 PB2 (io), 11 PB3 (io), 12 PB4 (io), 13 PB5 (io), 14 PB6 (io), 15 PB7 (io), 16 PC0 (io), 17 PC1 (io), 18 PC2 (io), 19 PC3 (io), 20 VDD hidden, 21 GND hidden, 22 PC4 (io), 23 PC5 (io), 24 PC6 (io), 25 PC7 (io), 26 PD0 (io), 27 PD1 (io), 28 PD2 (io), 29 PD3 (io), 30 PD4 (io), 31 PD5 (io), 32 PD6 (io), 33 VREFA/PD7 (io), 34 AVDD (power), 35 GND hidden, 36 PE0 (io), 37 PE1 (io), 38 PE2 (io), 39 PE3 (io), 40 PE4 (io), 41 PE5 (io), 42 PE6 (io), 43 PE7 (io), 44 XTAL32K1/PF0 (io), 45 XTAL32K2/PF1 (io), 46 PF2 (io), 47 PF3 (io), 48 PF4 (io), 49 PF5 (io), 50 ~{{RESET}/PF6 } (io), 51 UPDI (in), 52 PG0 (io), 53 PG1 (io), 54 PG2 (io), 55 PG3 (io), 56 VDD hidden, 57 GND hidden, 58 PG4 (io), 59 PG5 (io), 60 PG6 (io), 61 PG7 (io), 62 PA0 (io), 63 PA1 (io), 64 PA2 (io)

## AVR64DB28x-xSO
designator *  value AVR64DB28x-xSO
ki_keywords: AVR 8bit Microcontroller AVR-DB; ki_description: 24MHz, 64kB Flash, 8kB SRAM, EEPROM with Op Amps and Multi-Voltage I/O, SOIC-28; ki_fp_filters: SOIC*7.5x17.9mm*P1.27mm*; Footprint: Package_SO:SOIC-28W_7.5x17.9mm_P1.27mm; Supplier: https://ww1.microchip.com/downloads/en/DeviceDoc/AVR64DB28-32-48-64-DataSheet-DS40002300A.pdf
footprint SOIC-28W_7.5x17.9mm_P1.27mm
pins: 1 PA7 (io), 2 PC0 (io), 3 PC1 (io), 4 PC2 (io), 5 PC3 (io), 6 VDDIO2 (power), 7 PD1 (io), 8 PD2 (io), 9 PD3 (io), 10 PD4 (io), 11 PD5 (io), 12 PD6 (io), 13 VREFA/PD7 (io), 14 AVDD (power), 15 AGND (power), 16 XTAL32K1/PF0 (io), 17 XTAL32K2/PF1 (io), 18 ~{{RESET}/PF6} (io), 19 UPDI (in), 20 VDD (power), 21 GND (power), 22 XTALHF1/PA0 (io), 23 XTALHF2/PA1 (io), 24 PA2 (io), 25 PA3 (io), 26 PA4 (io), 27 PA5 (io), 28 PA6 (io)

## AVR64DB28x-xSP
designator *  value AVR64DB28x-xSP
ki_keywords: AVR 8bit Microcontroller AVR-DB; ki_description: 24MHz, 64kB Flash, 8kB SRAM, EEPROM with Op Amps and Multi-Voltage I/O, SPDIP-28; ki_fp_filters: DIP*W7.62mm*; Footprint: Package_DIP:DIP-28_W7.62mm; Supplier: https://ww1.microchip.com/downloads/en/DeviceDoc/AVR64DB28-32-48-64-DataSheet-DS40002300A.pdf
footprint DIP-28_W7.62mm
pins: 1 PA7 (io), 2 PC0 (io), 3 PC1 (io), 4 PC2 (io), 5 PC3 (io), 6 VDDIO2 (power), 7 PD1 (io), 8 PD2 (io), 9 PD3 (io), 10 PD4 (io), 11 PD5 (io), 12 PD6 (io), 13 VREFA/PD7 (io), 14 AVDD (power), 15 AGND (power), 16 XTAL32K1/PF0 (io), 17 XTAL32K2/PF1 (io), 18 ~{{RESET}/PF6} (io), 19 UPDI (in), 20 VDD (power), 21 GND (power), 22 XTALHF1/PA0 (io), 23 XTALHF2/PA1 (io), 24 PA2 (io), 25 PA3 (io), 26 PA4 (io), 27 PA5 (io), 28 PA6 (io)

## AVR64DB28x-xSS
designator *  value AVR64DB28x-xSS
ki_keywords: AVR 8bit Microcontroller AVR-DB; ki_description: 24MHz, 64kB Flash, 8kB SRAM, EEPROM with Op Amps and Multi-Voltage I/O, SSOP-28; ki_fp_filters: SSOP*5.3x10.2mm*P0.65mm*; Footprint: Package_SO:SSOP-28_5.3x10.2mm_P0.65mm; Supplier: https://ww1.microchip.com/downloads/en/DeviceDoc/AVR64DB28-32-48-64-DataSheet-DS40002300A.pdf
footprint SSOP-28_5.3x10.2mm_P0.65mm
pins: 1 PA7 (io), 2 PC0 (io), 3 PC1 (io), 4 PC2 (io), 5 PC3 (io), 6 VDDIO2 (power), 7 PD1 (io), 8 PD2 (io), 9 PD3 (io), 10 PD4 (io), 11 PD5 (io), 12 PD6 (io), 13 VREFA/PD7 (io), 14 AVDD (power), 15 AGND (power), 16 XTAL32K1/PF0 (io), 17 XTAL32K2/PF1 (io), 18 ~{{RESET}/PF6} (io), 19 UPDI (in), 20 VDD (power), 21 GND (power), 22 XTALHF1/PA0 (io), 23 XTALHF2/PA1 (io), 24 PA2 (io), 25 PA3 (io), 26 PA4 (io), 27 PA5 (io), 28 PA6 (io)

## AVR64DB32x-xPT
designator *  value AVR64DB32x-xPT
ki_keywords: AVR 8bit Microcontroller AVR-DB; ki_description: 24MHz, 64kB Flash, 8kB SRAM, EEPROM with Op Amps and Multi-Voltage I/O, TQFP-32; ki_fp_filters: TQFP*7x7mm*P0.8mm*; Footprint: Package_QFP:TQFP-32_7x7mm_P0.8mm; Supplier: https://ww1.microchip.com/downloads/en/DeviceDoc/AVR64DB28-32-48-64-DataSheet-DS40002300A.pdf
footprint TQFP-32_7x7mm_P0.8mm
pins: 1 PA3 (io), 2 PA4 (io), 3 PA5 (io), 4 PA6 (io), 5 PA7 (io), 6 PC0 (io), 7 PC1 (io), 8 PC2 (io), 9 PC3 (io), 10 VDDIO2 (power), 11 PD1 (io), 12 PD2 (io), 13 PD3 (io), 14 PD4 (io), 15 PD5 (io), 16 PD6 (io), 17 VREFA/PD7 (io), 18 AVDD (power), 19 AGND (power), 20 XTAL32K1/PF0 (io), 21 XTAL32K2/PF1 (io), 22 PF2 (io), 23 PF3 (io), 24 PF4 (io), 25 PF5 (io), 26 ~{{RESET}/PF6} (io), 27 UPDI (in), 28 VDD (power), 29 GND (power), 30 XTALHF1/PA0 (io), 31 XTALHF2/PA1 (io), 32 PA2 (io)

## AVR64DB32x-xRXB
designator *  value AVR64DB32x-xRXB
ki_keywords: AVR 8bit Microcontroller AVR-DB; ki_description: 24MHz, 64kB Flash, 8kB SRAM, EEPROM with Op Amps and Multi-Voltage I/O, VQFN-32; ki_fp_filters: QFN*1EP*5x5mm*P0.5mm*EP3.1x3.1mm*; Footprint: Package_DFN_QFN:QFN-32-1EP_5x5mm_P0.5mm_EP3.1x3.1mm; Supplier: https://ww1.microchip.com/downloads/en/DeviceDoc/AVR64DB28-32-48-64-DataSheet-DS40002300A.pdf
footprint QFN-32-1EP_5x5mm_P0.5mm_EP3.1x3.1mm
pins: 1 PA3 (io), 2 PA4 (io), 3 PA5 (io), 4 PA6 (io), 5 PA7 (io), 6 PC0 (io), 7 PC1 (io), 8 PC2 (io), 9 PC3 (io), 10 VDDIO2 (power), 11 PD1 (io), 12 PD2 (io), 13 PD3 (io), 14 PD4 (io), 15 PD5 (io), 16 PD6 (io), 17 VREFA/PD7 (io), 18 AVDD (power), 19 AGND (power), 20 XTAL32K1/PF0 (io), 21 XTAL32K2/PF1 (io), 22 PF2 (io), 23 PF3 (io), 24 PF4 (io), 25 PF5 (io), 26 ~{{RESET}/PF6} (io), 27 UPDI (in), 28 VDD (power), 29 GND (power), 30 XTALHF1/PA0 (io), 31 XTALHF2/PA1 (io), 32 PA2 (io), 33 GND hidden

## AVR64DB48x-x6LX
designator *  value AVR64DB48x-x6LX
ki_keywords: AVR 8bit Microcontroller AVR-DB; ki_description: 24MHz, 64kB Flash, 8kB SRAM, EEPROM with Op Amps and Multi-Voltage I/O, VQFN-48; ki_fp_filters: QFN*1EP*6x6mm*P0.4mm*EP4.2x4.2mm*; Footprint: Package_DFN_QFN:QFN-48-1EP_6x6mm_P0.4mm_EP4.2x4.2mm; Supplier: https://ww1.microchip.com/downloads/en/DeviceDoc/AVR64DB28-32-48-64-DataSheet-DS40002300A.pdf
footprint QFN-48-1EP_6x6mm_P0.4mm_EP4.2x4.2mm
pins: 1 PA5 (io), 2 PA6 (io), 3 PA7 (io), 4 PB0 (io), 5 PB1 (io), 6 PB2 (io), 7 PB3 (io), 8 PB4 (io), 9 PB5 (io), 10 PC0 (io), 11 PC1 (io), 12 PC2 (io), 13 PC3 (io), 14 VDDIO2 (power), 15 GND (power), 16 PC4 (io), 17 PC5 (io), 18 PC6 (io), 19 PC7 (io), 20 PD0 (io), 21 PD1 (io), 22 PD2 (io), 23 PD3 (io), 24 PD4 (io), 25 PD5 (io), 26 PD6 (io), 27 VREFA/PD7 (io), 28 AVDD (power), 29 AGND (power), 30 PE0 (io), 31 PE1 (io), 32 PE2 (io), 33 PE3 (io), 34 XTAL32K1/PF0 (io), 35 XTAL32K2/PF1 (io), 36 PF2 (io), 37 PF3 (io), 38 PF4 (io), 39 PF5 (io), 40 ~{{RESET}/PF6} (io), 41 UPDI (in), 42 VDD (power), 43 GND hidden, 44 XTALHF1/PA0 (io), 45 XTALHF2/PA1 (io), 46 PA2 (io), 47 PA3 (io), 48 PA4 (io), 49 GND hidden

## AVR64DB48x-xPT
designator *  value AVR64DB48x-xPT
ki_keywords: AVR 8bit Microcontroller AVR-DB; ki_description: 24MHz, 64kB Flash, 8kB SRAM, EEPROM with Op Amps and Multi-Voltage I/O, TQFP-48; ki_fp_filters: TQFP*7x7mm*P0.5mm*; Footprint: Package_QFP:TQFP-48_7x7mm_P0.5mm; Supplier: https://ww1.microchip.com/downloads/en/DeviceDoc/AVR64DB28-32-48-64-DataSheet-DS40002300A.pdf
footprint TQFP-48_7x7mm_P0.5mm
pins: 1 PA5 (io), 2 PA6 (io), 3 PA7 (io), 4 PB0 (io), 5 PB1 (io), 6 PB2 (io), 7 PB3 (io), 8 PB4 (io), 9 PB5 (io), 10 PC0 (io), 11 PC1 (io), 12 PC2 (io), 13 PC3 (io), 14 VDDIO2 (power), 15 GND (power), 16 PC4 (io), 17 PC5 (io), 18 PC6 (io), 19 PC7 (io), 20 PD0 (io), 21 PD1 (io), 22 PD2 (io), 23 PD3 (io), 24 PD4 (io), 25 PD5 (io), 26 PD6 (io), 27 VREFA/PD7 (io), 28 AVDD (power), 29 AGND (power), 30 PE0 (io), 31 PE1 (io), 32 PE2 (io), 33 PE3 (io), 34 XTAL32K1/PF0 (io), 35 XTAL32K2/PF1 (io), 36 PF2 (io), 37 PF3 (io), 38 PF4 (io), 39 PF5 (io), 40 ~{{RESET}/PF6} (io), 41 UPDI (in), 42 VDD (power), 43 GND hidden, 44 XTALHF1/PA0 (io), 45 XTALHF2/PA1 (io), 46 PA2 (io), 47 PA3 (io), 48 PA4 (io)

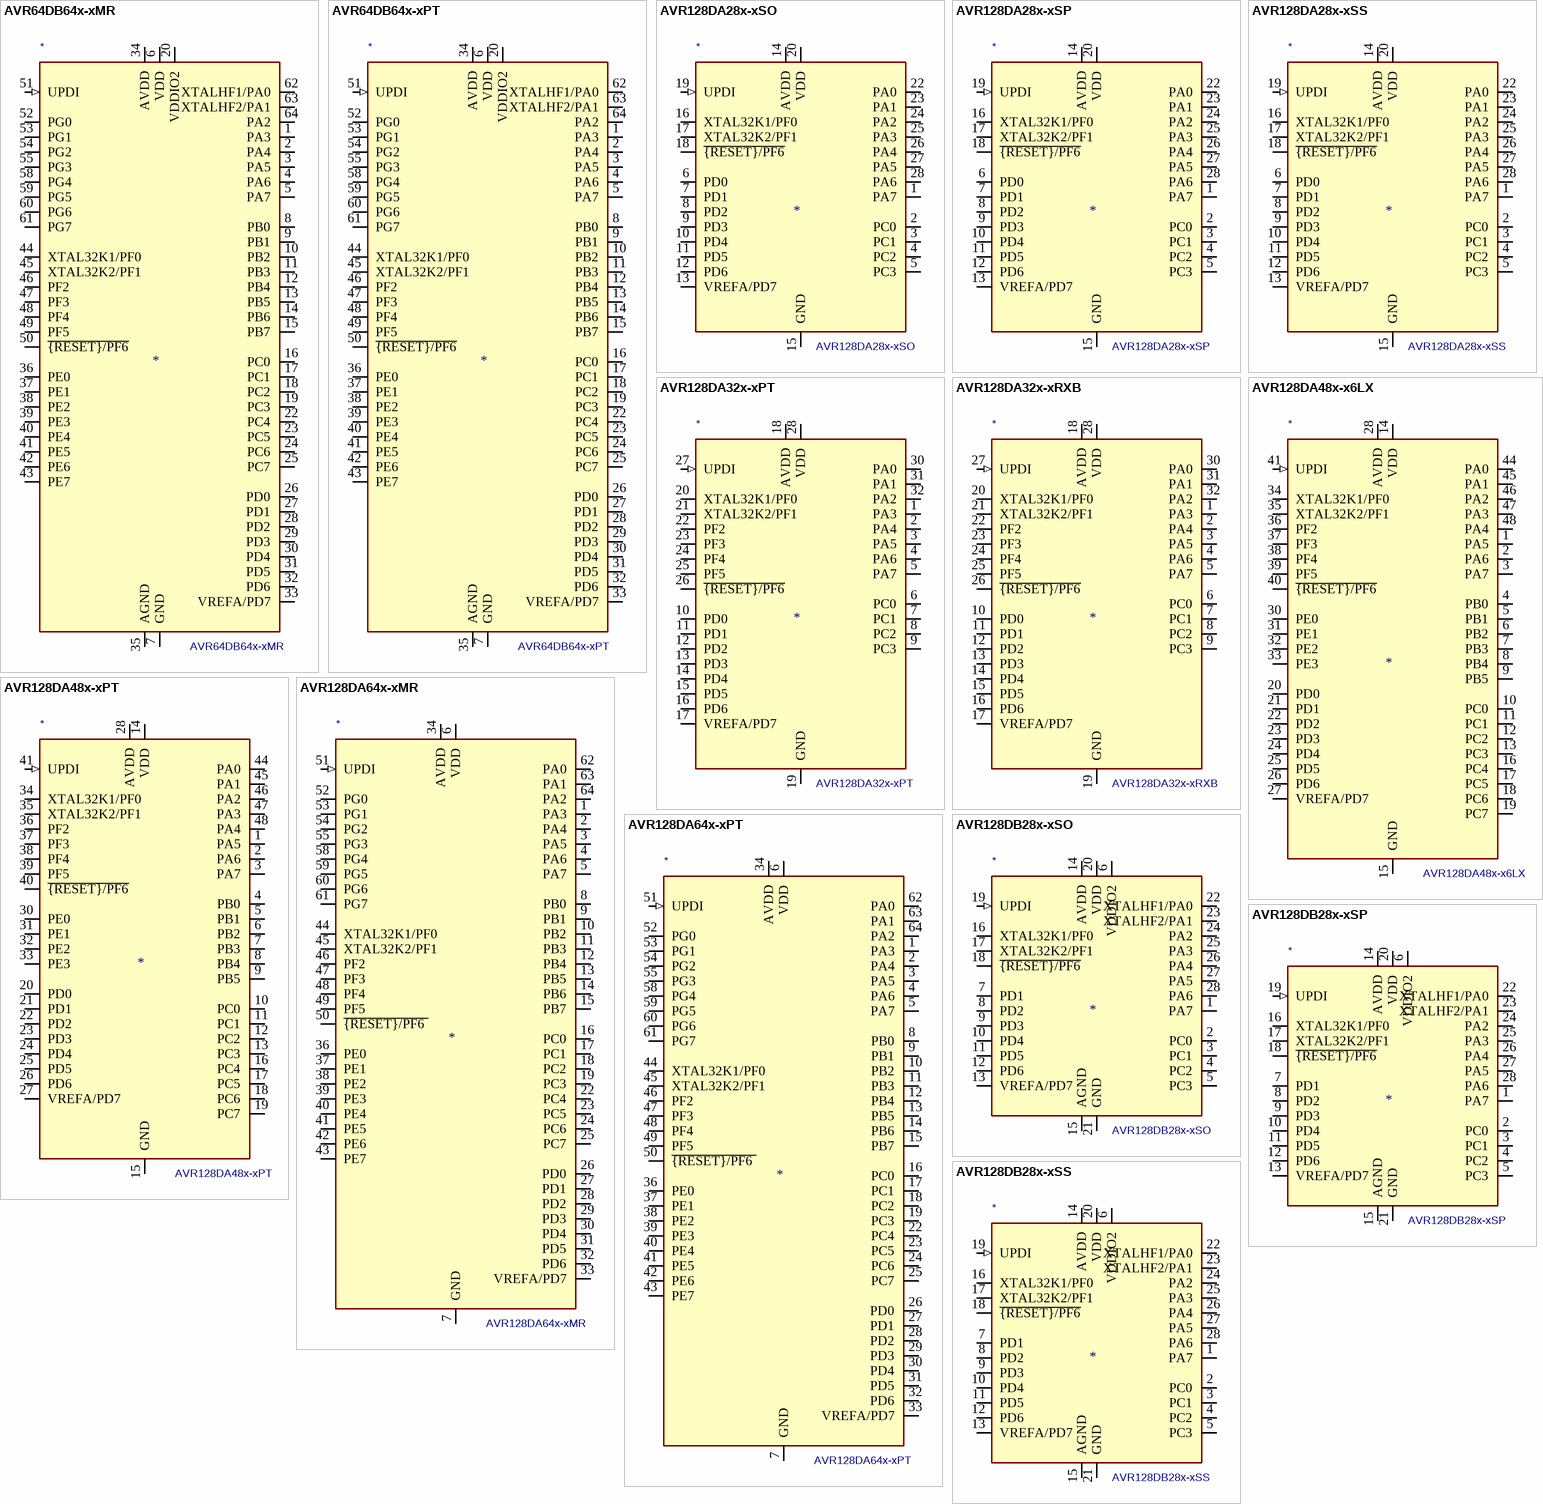
[diagram p2: symbols AVR64DB64x-xMR to AVR128DB28x-xSS]

## AVR64DB64x-xMR
designator *  value AVR64DB64x-xMR
ki_keywords: AVR 8bit Microcontroller AVR-DB; ki_description: 24MHz, 64kB Flash, 8kB SRAM, EEPROM with Op Amps and Multi-Voltage I/O, VQFN-64; ki_fp_filters: VQFN*1EP*9x9mm*P0.5mm*EP7.15x7.15mm*; Footprint: Package_DFN_QFN:VQFN-64-1EP_9x9mm_P0.5mm_EP7.15x7.15mm; Supplier: https://ww1.microchip.com/downloads/en/DeviceDoc/AVR64DB28-32-48-64-DataSheet-DS40002300A.pdf
footprint VQFN-64-1EP_9x9mm_P0.5mm_EP7.15x7.15mm
pins: 1 PA3 (io), 2 PA4 (io), 3 PA5 (io), 4 PA6 (io), 5 PA7 (io), 6 VDD (power), 7 GND (power), 8 PB0 (io), 9 PB1 (io), 10 PB2 (io), 11 PB3 (io), 12 PB4 (io), 13 PB5 (io), 14 PB6 (io), 15 PB7 (io), 16 PC0 (io), 17 PC1 (io), 18 PC2 (io), 19 PC3 (io), 20 VDDIO2 (power), 21 GND hidden, 22 PC4 (io), 23 PC5 (io), 24 PC6 (io), 25 PC7 (io), 26 PD0 (io), 27 PD1 (io), 28 PD2 (io), 29 PD3 (io), 30 PD4 (io), 31 PD5 (io), 32 PD6 (io), 33 VREFA/PD7 (io), 34 AVDD (power), 35 AGND (power), 36 PE0 (io), 37 PE1 (io), 38 PE2 (io), 39 PE3 (io), 40 PE4 (io), 41 PE5 (io), 42 PE6 (io), 43 PE7 (io), 44 XTAL32K1/PF0 (io), 45 XTAL32K2/PF1 (io), 46 PF2 (io), 47 PF3 (io), 48 PF4 (io), 49 PF5 (io), 50 ~{{RESET}/PF6} (io), 51 UPDI (in), 52 PG0 (io), 53 PG1 (io), 54 PG2 (io), 55 PG3 (io), 56 VDD hidden, 57 GND hidden, 58 PG4 (io), 59 PG5 (io), 60 PG6 (io), 61 PG7 (io), 62 XTALHF1/PA0 (io), 63 XTALHF2/PA1 (io), 64 PA2 (io), 65 GND hidden

## AVR64DB64x-xPT
designator *  value AVR64DB64x-xPT
ki_keywords: AVR 8bit Microcontroller AVR-DB; ki_description: 24MHz, 64kB Flash, 8kB SRAM, EEPROM with Op Amps and Multi-Voltage I/O, TQFP-64; ki_fp_filters: TQFP*10x10mm*P0.5mm*; Footprint: Package_QFP:TQFP-64_10x10mm_P0.5mm; Supplier: https://ww1.microchip.com/downloads/en/DeviceDoc/AVR64DB28-32-48-64-DataSheet-DS40002300A.pdf
footprint TQFP-64_10x10mm_P0.5mm
pins: 1 PA3 (io), 2 PA4 (io), 3 PA5 (io), 4 PA6 (io), 5 PA7 (io), 6 VDD (power), 7 GND (power), 8 PB0 (io), 9 PB1 (io), 10 PB2 (io), 11 PB3 (io), 12 PB4 (io), 13 PB5 (io), 14 PB6 (io), 15 PB7 (io), 16 PC0 (io), 17 PC1 (io), 18 PC2 (io), 19 PC3 (io), 20 VDDIO2 (power), 21 GND hidden, 22 PC4 (io), 23 PC5 (io), 24 PC6 (io), 25 PC7 (io), 26 PD0 (io), 27 PD1 (io), 28 PD2 (io), 29 PD3 (io), 30 PD4 (io), 31 PD5 (io), 32 PD6 (io), 33 VREFA/PD7 (io), 34 AVDD (power), 35 AGND (power), 36 PE0 (io), 37 PE1 (io), 38 PE2 (io), 39 PE3 (io), 40 PE4 (io), 41 PE5 (io), 42 PE6 (io), 43 PE7 (io), 44 XTAL32K1/PF0 (io), 45 XTAL32K2/PF1 (io), 46 PF2 (io), 47 PF3 (io), 48 PF4 (io), 49 PF5 (io), 50 ~{{RESET}/PF6} (io), 51 UPDI (in), 52 PG0 (io), 53 PG1 (io), 54 PG2 (io), 55 PG3 (io), 56 VDD hidden, 57 GND hidden, 58 PG4 (io), 59 PG5 (io), 60 PG6 (io), 61 PG7 (io), 62 XTALHF1/PA0 (io), 63 XTALHF2/PA1 (io), 64 PA2 (io)

## AVR128DA28x-xSO
designator *  value AVR128DA28x-xSO
ki_keywords: AVR 8bit Microcontroller AVR-DA; ki_description: 24MHz, 128kB Flash, 16kB SRAM, EEPROM with Touch Sensing, SOIC-28; ki_fp_filters: SOIC*7.5x17.9mm*P1.27mm*; Footprint: Package_SO:SOIC-28W_7.5x17.9mm_P1.27mm; Supplier: https://ww1.microchip.com/downloads/en/DeviceDoc/AVR128DA28-32-48-64-DataSheet-DS40002183B.pdf
footprint SOIC-28W_7.5x17.9mm_P1.27mm
pins: 1 PA7 (io), 2 PC0 (io), 3 PC1 (io), 4 PC2 (io), 5 PC3 (io), 6 PD0 (io), 7 PD1 (io), 8 PD2 (io), 9 PD3 (io), 10 PD4 (io), 11 PD5 (io), 12 PD6 (io), 13 VREFA/PD7 (io), 14 AVDD (power), 15 GND (power), 16 XTAL32K1/PF0 (io), 17 XTAL32K2/PF1 (io), 18 ~{{RESET}/PF6} (io), 19 UPDI (in), 20 VDD (power), 21 GND hidden, 22 PA0 (io), 23 PA1 (io), 24 PA2 (io), 25 PA3 (io), 26 PA4 (io), 27 PA5 (io), 28 PA6 (io)

## AVR128DA28x-xSP
designator *  value AVR128DA28x-xSP
ki_keywords: AVR 8bit Microcontroller AVR-DA; ki_description: 24MHz, 128kB Flash, 16kB SRAM, EEPROM with Touch Sensing, SPDIP-28; ki_fp_filters: DIP*W7.62mm*; Footprint: Package_DIP:DIP-28_W7.62mm; Supplier: https://ww1.microchip.com/downloads/en/DeviceDoc/AVR128DA28-32-48-64-DataSheet-DS40002183B.pdf
footprint DIP-28_W7.62mm
pins: 1 PA7 (io), 2 PC0 (io), 3 PC1 (io), 4 PC2 (io), 5 PC3 (io), 6 PD0 (io), 7 PD1 (io), 8 PD2 (io), 9 PD3 (io), 10 PD4 (io), 11 PD5 (io), 12 PD6 (io), 13 VREFA/PD7 (io), 14 AVDD (power), 15 GND (power), 16 XTAL32K1/PF0 (io), 17 XTAL32K2/PF1 (io), 18 ~{{RESET}/PF6} (io), 19 UPDI (in), 20 VDD (power), 21 GND hidden, 22 PA0 (io), 23 PA1 (io), 24 PA2 (io), 25 PA3 (io), 26 PA4 (io), 27 PA5 (io), 28 PA6 (io)

## AVR128DA28x-xSS
designator *  value AVR128DA28x-xSS
ki_keywords: AVR 8bit Microcontroller AVR-DA; ki_description: 24MHz, 128kB Flash, 16kB SRAM, EEPROM with Touch Sensing, SSOP-28; ki_fp_filters: SSOP*5.3x10.2mm*P0.65mm*; Footprint: Package_SO:SSOP-28_5.3x10.2mm_P0.65mm; Supplier: https://ww1.microchip.com/downloads/en/DeviceDoc/AVR128DA28-32-48-64-DataSheet-DS40002183B.pdf
footprint SSOP-28_5.3x10.2mm_P0.65mm
pins: 1 PA7 (io), 2 PC0 (io), 3 PC1 (io), 4 PC2 (io), 5 PC3 (io), 6 PD0 (io), 7 PD1 (io), 8 PD2 (io), 9 PD3 (io), 10 PD4 (io), 11 PD5 (io), 12 PD6 (io), 13 VREFA/PD7 (io), 14 AVDD (power), 15 GND (power), 16 XTAL32K1/PF0 (io), 17 XTAL32K2/PF1 (io), 18 ~{{RESET}/PF6} (io), 19 UPDI (in), 20 VDD (power), 21 GND hidden, 22 PA0 (io), 23 PA1 (io), 24 PA2 (io), 25 PA3 (io), 26 PA4 (io), 27 PA5 (io), 28 PA6 (io)

## AVR128DA32x-xPT
designator *  value AVR128DA32x-xPT
ki_keywords: AVR 8bit Microcontroller AVR-DA; ki_description: 24MHz, 128kB Flash, 16kB SRAM, EEPROM with Touch Sensing, TQFP-32; ki_fp_filters: TQFP*7x7mm*P0.8mm*; Footprint: Package_QFP:TQFP-32_7x7mm_P0.8mm; Supplier: https://ww1.microchip.com/downloads/en/DeviceDoc/AVR128DA28-32-48-64-DataSheet-DS40002183B.pdf
footprint TQFP-32_7x7mm_P0.8mm
pins: 1 PA3 (io), 2 PA4 (io), 3 PA5 (io), 4 PA6 (io), 5 PA7 (io), 6 PC0 (io), 7 PC1 (io), 8 PC2 (io), 9 PC3 (io), 10 PD0 (io), 11 PD1 (io), 12 PD2 (io), 13 PD3 (io), 14 PD4 (io), 15 PD5 (io), 16 PD6 (io), 17 VREFA/PD7 (io), 18 AVDD (power), 19 GND (power), 20 XTAL32K1/PF0 (io), 21 XTAL32K2/PF1 (io), 22 PF2 (io), 23 PF3 (io), 24 PF4 (io), 25 PF5 (io), 26 ~{{RESET}/PF6} (io), 27 UPDI (in), 28 VDD (power), 29 GND hidden, 30 PA0 (io), 31 PA1 (io), 32 PA2 (io)

## AVR128DA32x-xRXB
designator *  value AVR128DA32x-xRXB
ki_keywords: AVR 8bit Microcontroller AVR-DA; ki_description: 24MHz, 128kB Flash, 16kB SRAM, EEPROM with Touch Sensing, VQFN-32; ki_fp_filters: QFN*1EP*5x5mm*P0.5mm*EP3.1x3.1mm*; Footprint: Package_DFN_QFN:QFN-32-1EP_5x5mm_P0.5mm_EP3.1x3.1mm; Supplier: https://ww1.microchip.com/downloads/en/DeviceDoc/AVR128DA28-32-48-64-DataSheet-DS40002183B.pdf
footprint QFN-32-1EP_5x5mm_P0.5mm_EP3.1x3.1mm
pins: 1 PA3 (io), 2 PA4 (io), 3 PA5 (io), 4 PA6 (io), 5 PA7 (io), 6 PC0 (io), 7 PC1 (io), 8 PC2 (io), 9 PC3 (io), 10 PD0 (io), 11 PD1 (io), 12 PD2 (io), 13 PD3 (io), 14 PD4 (io), 15 PD5 (io), 16 PD6 (io), 17 VREFA/PD7 (io), 18 AVDD (power), 19 GND (power), 20 XTAL32K1/PF0 (io), 21 XTAL32K2/PF1 (io), 22 PF2 (io), 23 PF3 (io), 24 PF4 (io), 25 PF5 (io), 26 ~{{RESET}/PF6} (io), 27 UPDI (in), 28 VDD (power), 29 GND hidden, 30 PA0 (io), 31 PA1 (io), 32 PA2 (io), 33 GND hidden

## AVR128DA48x-x6LX
designator *  value AVR128DA48x-x6LX
ki_keywords: AVR 8bit Microcontroller AVR-DA; ki_description: 24MHz, 128kB Flash, 16kB SRAM, EEPROM with Touch Sensing, VQFN-48; ki_fp_filters: QFN*1EP*6x6mm*P0.4mm*EP4.2x4.2mm*; Footprint: Package_DFN_QFN:QFN-48-1EP_6x6mm_P0.4mm_EP4.2x4.2mm; Supplier: https://ww1.microchip.com/downloads/en/DeviceDoc/AVR128DA28-32-48-64-DataSheet-DS40002183B.pdf
footprint QFN-48-1EP_6x6mm_P0.4mm_EP4.2x4.2mm
pins: 1 PA5 (io), 2 PA6 (io), 3 PA7 (io), 4 PB0 (io), 5 PB1 (io), 6 PB2 (io), 7 PB3 (io), 8 PB4 (io), 9 PB5 (io), 10 PC0 (io), 11 PC1 (io), 12 PC2 (io), 13 PC3 (io), 14 VDD (power), 15 GND (power), 16 PC4 (io), 17 PC5 (io), 18 PC6 (io), 19 PC7 (io), 20 PD0 (io), 21 PD1 (io), 22 PD2 (io), 23 PD3 (io), 24 PD4 (io), 25 PD5 (io), 26 PD6 (io), 27 VREFA/PD7 (io), 28 AVDD (power), 29 GND hidden, 30 PE0 (io), 31 PE1 (io), 32 PE2 (io), 33 PE3 (io), 34 XTAL32K1/PF0 (io), 35 XTAL32K2/PF1 (io), 36 PF2 (io), 37 PF3 (io), 38 PF4 (io), 39 PF5 (io), 40 ~{{RESET}/PF6} (io), 41 UPDI (in), 42 VDD hidden, 43 GND hidden, 44 PA0 (io), 45 PA1 (io), 46 PA2 (io), 47 PA3 (io), 48 PA4 (io), 49 GND hidden

## AVR128DA48x-xPT
designator *  value AVR128DA48x-xPT
ki_keywords: AVR 8bit Microcontroller AVR-DA; ki_description: 24MHz, 128kB Flash, 16kB SRAM, EEPROM with Touch Sensing, TQFP-48; ki_fp_filters: TQFP*7x7mm*P0.5mm*; Footprint: Package_QFP:TQFP-48_7x7mm_P0.5mm; Supplier: https://ww1.microchip.com/downloads/en/DeviceDoc/AVR128DA28-32-48-64-DataSheet-DS40002183B.pdf
footprint TQFP-48_7x7mm_P0.5mm
pins: 1 PA5 (io), 2 PA6 (io), 3 PA7 (io), 4 PB0 (io), 5 PB1 (io), 6 PB2 (io), 7 PB3 (io), 8 PB4 (io), 9 PB5 (io), 10 PC0 (io), 11 PC1 (io), 12 PC2 (io), 13 PC3 (io), 14 VDD (power), 15 GND (power), 16 PC4 (io), 17 PC5 (io), 18 PC6 (io), 19 PC7 (io), 20 PD0 (io), 21 PD1 (io), 22 PD2 (io), 23 PD3 (io), 24 PD4 (io), 25 PD5 (io), 26 PD6 (io), 27 VREFA/PD7 (io), 28 AVDD (power), 29 GND hidden, 30 PE0 (io), 31 PE1 (io), 32 PE2 (io), 33 PE3 (io), 34 XTAL32K1/PF0 (io), 35 XTAL32K2/PF1 (io), 36 PF2 (io), 37 PF3 (io), 38 PF4 (io), 39 PF5 (io), 40 ~{{RESET}/PF6} (io), 41 UPDI (in), 42 VDD hidden, 43 GND hidden, 44 PA0 (io), 45 PA1 (io), 46 PA2 (io), 47 PA3 (io), 48 PA4 (io)

## AVR128DA64x-xMR
designator *  value AVR128DA64x-xMR
ki_keywords: AVR 8bit Microcontroller AVR-DA; ki_description: 24MHz, 128kB Flash, 16kB SRAM, EEPROM with Touch Sensing, VQFN-64; ki_fp_filters: VQFN*1EP*9x9mm*P0.5mm*EP7.15x7.15mm*; Footprint: Package_DFN_QFN:VQFN-64-1EP_9x9mm_P0.5mm_EP7.15x7.15mm; Supplier: https://ww1.microchip.com/downloads/en/DeviceDoc/AVR128DA28-32-48-64-DataSheet-DS40002183B.pdf
footprint VQFN-64-1EP_9x9mm_P0.5mm_EP7.15x7.15mm
pins: 1 PA3 (io), 2 PA4 (io), 3 PA5 (io), 4 PA6 (io), 5 PA7 (io), 6 VDD (power), 7 GND (power), 8 PB0 (io), 9 PB1 (io), 10 PB2 (io), 11 PB3 (io), 12 PB4 (io), 13 PB5 (io), 14 PB6 (io), 15 PB7 (io), 16 PC0 (io), 17 PC1 (io), 18 PC2 (io), 19 PC3 (io), 20 VDD hidden, 21 GND hidden, 22 PC4 (io), 23 PC5 (io), 24 PC6 (io), 25 PC7 (io), 26 PD0 (io), 27 PD1 (io), 28 PD2 (io), 29 PD3 (io), 30 PD4 (io), 31 PD5 (io), 32 PD6 (io), 33 VREFA/PD7 (io), 34 AVDD (power), 35 GND hidden, 36 PE0 (io), 37 PE1 (io), 38 PE2 (io), 39 PE3 (io), 40 PE4 (io), 41 PE5 (io), 42 PE6 (io), 43 PE7 (io), 44 XTAL32K1/PF0 (io), 45 XTAL32K2/PF1 (io), 46 PF2 (io), 47 PF3 (io), 48 PF4 (io), 49 PF5 (io), 50 ~{{RESET}/PF6 } (io), 51 UPDI (in), 52 PG0 (io), 53 PG1 (io), 54 PG2 (io), 55 PG3 (io), 56 VDD hidden, 57 GND hidden, 58 PG4 (io), 59 PG5 (io), 60 PG6 (io), 61 PG7 (io), 62 PA0 (io), 63 PA1 (io), 64 PA2 (io), 65 GND hidden

## AVR128DA64x-xPT
designator *  value AVR128DA64x-xPT
ki_keywords: AVR 8bit Microcontroller AVR-DA; ki_description: 24MHz, 128kB Flash, 16kB SRAM, EEPROM with Touch Sensing, TQFP-64; ki_fp_filters: TQFP*10x10mm*P0.5mm*; Footprint: Package_QFP:TQFP-64_10x10mm_P0.5mm; Supplier: https://ww1.microchip.com/downloads/en/DeviceDoc/AVR128DA28-32-48-64-DataSheet-DS40002183B.pdf
footprint TQFP-64_10x10mm_P0.5mm
pins: 1 PA3 (io), 2 PA4 (io), 3 PA5 (io), 4 PA6 (io), 5 PA7 (io), 6 VDD (power), 7 GND (power), 8 PB0 (io), 9 PB1 (io), 10 PB2 (io), 11 PB3 (io), 12 PB4 (io), 13 PB5 (io), 14 PB6 (io), 15 PB7 (io), 16 PC0 (io), 17 PC1 (io), 18 PC2 (io), 19 PC3 (io), 20 VDD hidden, 21 GND hidden, 22 PC4 (io), 23 PC5 (io), 24 PC6 (io), 25 PC7 (io), 26 PD0 (io), 27 PD1 (io), 28 PD2 (io), 29 PD3 (io), 30 PD4 (io), 31 PD5 (io), 32 PD6 (io), 33 VREFA/PD7 (io), 34 AVDD (power), 35 GND hidden, 36 PE0 (io), 37 PE1 (io), 38 PE2 (io), 39 PE3 (io), 40 PE4 (io), 41 PE5 (io), 42 PE6 (io), 43 PE7 (io), 44 XTAL32K1/PF0 (io), 45 XTAL32K2/PF1 (io), 46 PF2 (io), 47 PF3 (io), 48 PF4 (io), 49 PF5 (io), 50 ~{{RESET}/PF6 } (io), 51 UPDI (in), 52 PG0 (io), 53 PG1 (io), 54 PG2 (io), 55 PG3 (io), 56 VDD hidden, 57 GND hidden, 58 PG4 (io), 59 PG5 (io), 60 PG6 (io), 61 PG7 (io), 62 PA0 (io), 63 PA1 (io), 64 PA2 (io)

## AVR128DB28x-xSO
designator *  value AVR128DB28x-xSO
ki_keywords: AVR 8bit Microcontroller AVR-DB; ki_description: 24MHz, 128kB Flash, 16kB SRAM, EEPROM with Op Amps and Multi-Voltage I/O, SOIC-28; ki_fp_filters: SOIC*7.5x17.9mm*P1.27mm*; Footprint: Package_SO:SOIC-28W_7.5x17.9mm_P1.27mm; Supplier: https://ww1.microchip.com/downloads/en/DeviceDoc/AVR128DB28-32-48-64-DataSheet-DS40002247A.pdf
footprint SOIC-28W_7.5x17.9mm_P1.27mm
pins: 1 PA7 (io), 2 PC0 (io), 3 PC1 (io), 4 PC2 (io), 5 PC3 (io), 6 VDDIO2 (power), 7 PD1 (io), 8 PD2 (io), 9 PD3 (io), 10 PD4 (io), 11 PD5 (io), 12 PD6 (io), 13 VREFA/PD7 (io), 14 AVDD (power), 15 AGND (power), 16 XTAL32K1/PF0 (io), 17 XTAL32K2/PF1 (io), 18 ~{{RESET}/PF6} (io), 19 UPDI (in), 20 VDD (power), 21 GND (power), 22 XTALHF1/PA0 (io), 23 XTALHF2/PA1 (io), 24 PA2 (io), 25 PA3 (io), 26 PA4 (io), 27 PA5 (io), 28 PA6 (io)

## AVR128DB28x-xSP
designator *  value AVR128DB28x-xSP
ki_keywords: AVR 8bit Microcontroller AVR-DB; ki_description: 24MHz, 128kB Flash, 16kB SRAM, EEPROM with Op Amps and Multi-Voltage I/O, SPDIP-28; ki_fp_filters: DIP*W7.62mm*; Footprint: Package_DIP:DIP-28_W7.62mm; Supplier: https://ww1.microchip.com/downloads/en/DeviceDoc/AVR128DB28-32-48-64-DataSheet-DS40002247A.pdf
footprint DIP-28_W7.62mm
pins: 1 PA7 (io), 2 PC0 (io), 3 PC1 (io), 4 PC2 (io), 5 PC3 (io), 6 VDDIO2 (power), 7 PD1 (io), 8 PD2 (io), 9 PD3 (io), 10 PD4 (io), 11 PD5 (io), 12 PD6 (io), 13 VREFA/PD7 (io), 14 AVDD (power), 15 AGND (power), 16 XTAL32K1/PF0 (io), 17 XTAL32K2/PF1 (io), 18 ~{{RESET}/PF6} (io), 19 UPDI (in), 20 VDD (power), 21 GND (power), 22 XTALHF1/PA0 (io), 23 XTALHF2/PA1 (io), 24 PA2 (io), 25 PA3 (io), 26 PA4 (io), 27 PA5 (io), 28 PA6 (io)

## AVR128DB28x-xSS
designator *  value AVR128DB28x-xSS
ki_keywords: AVR 8bit Microcontroller AVR-DB; ki_description: 24MHz, 128kB Flash, 16kB SRAM, EEPROM with Op Amps and Multi-Voltage I/O, SSOP-28; ki_fp_filters: SSOP*5.3x10.2mm*P0.65mm*; Footprint: Package_SO:SSOP-28_5.3x10.2mm_P0.65mm; Supplier: https://ww1.microchip.com/downloads/en/DeviceDoc/AVR128DB28-32-48-64-DataSheet-DS40002247A.pdf
footprint SSOP-28_5.3x10.2mm_P0.65mm
pins: 1 PA7 (io), 2 PC0 (io), 3 PC1 (io), 4 PC2 (io), 5 PC3 (io), 6 VDDIO2 (power), 7 PD1 (io), 8 PD2 (io), 9 PD3 (io), 10 PD4 (io), 11 PD5 (io), 12 PD6 (io), 13 VREFA/PD7 (io), 14 AVDD (power), 15 AGND (power), 16 XTAL32K1/PF0 (io), 17 XTAL32K2/PF1 (io), 18 ~{{RESET}/PF6} (io), 19 UPDI (in), 20 VDD (power), 21 GND (power), 22 XTALHF1/PA0 (io), 23 XTALHF2/PA1 (io), 24 PA2 (io), 25 PA3 (io), 26 PA4 (io), 27 PA5 (io), 28 PA6 (io)

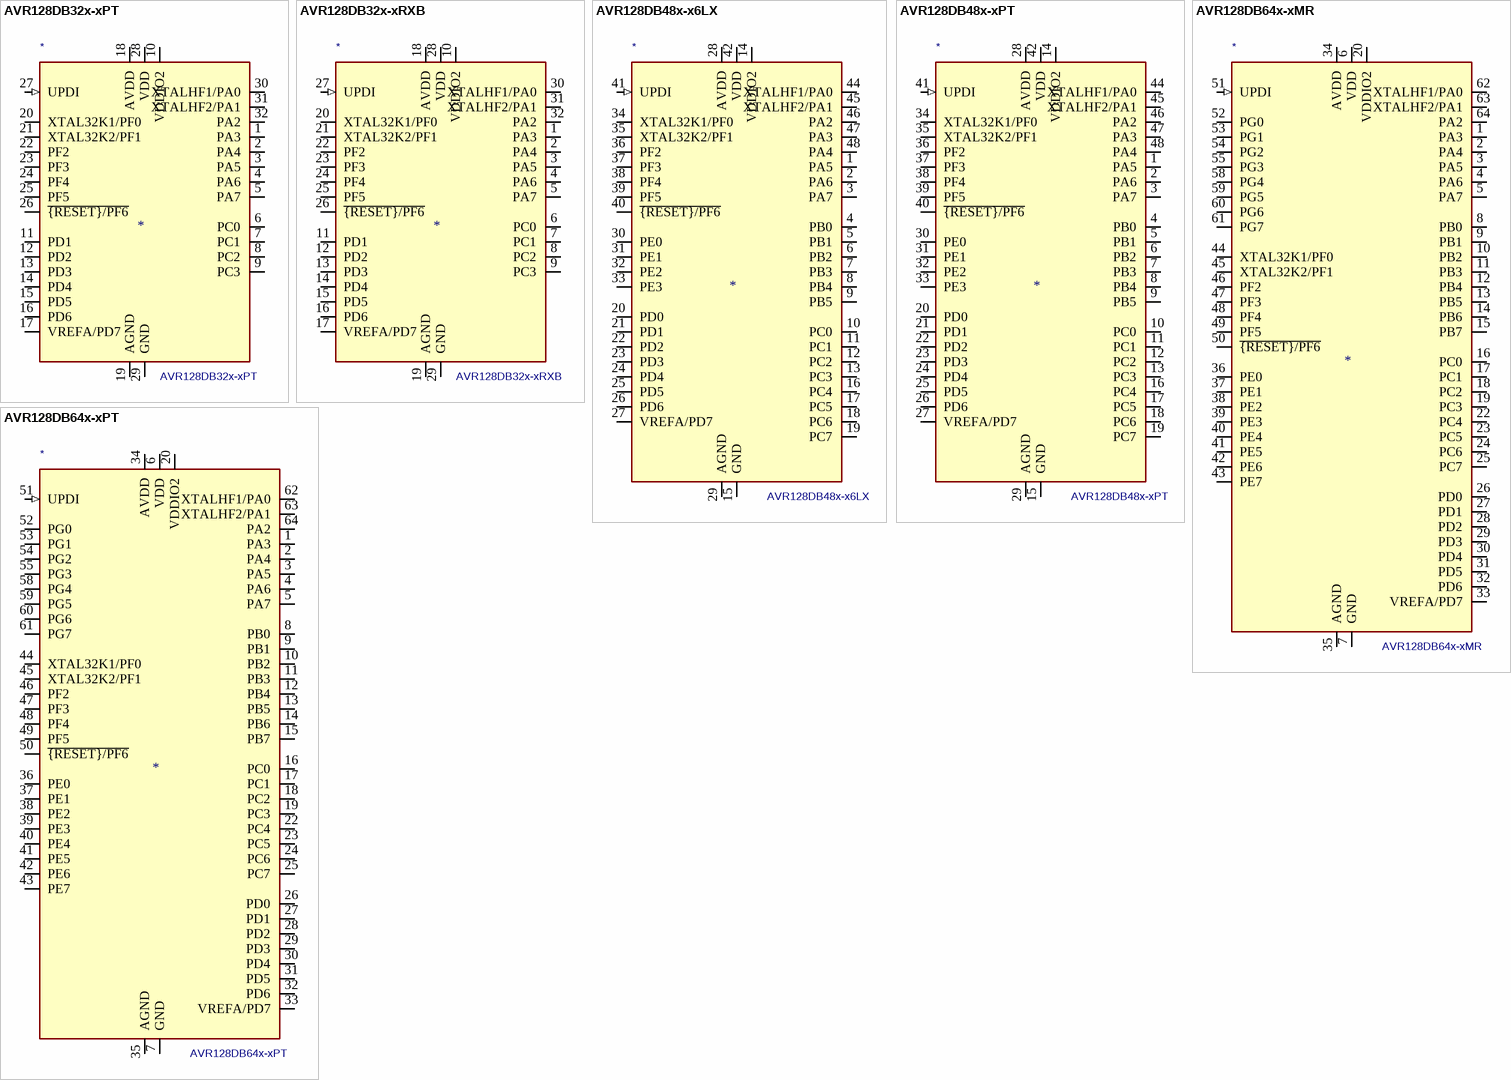
[diagram p3: symbols AVR128DB32x-xPT to AVR128DB64x-xPT]

## AVR128DB32x-xPT
designator *  value AVR128DB32x-xPT
ki_keywords: AVR 8bit Microcontroller AVR-DB; ki_description: 24MHz, 128kB Flash, 16kB SRAM, EEPROM with Op Amps and Multi-Voltage I/O, TQFP-32; ki_fp_filters: TQFP*7x7mm*P0.8mm*; Footprint: Package_QFP:TQFP-32_7x7mm_P0.8mm; Supplier: https://ww1.microchip.com/downloads/en/DeviceDoc/AVR128DB28-32-48-64-DataSheet-DS40002247A.pdf
footprint TQFP-32_7x7mm_P0.8mm
pins: 1 PA3 (io), 2 PA4 (io), 3 PA5 (io), 4 PA6 (io), 5 PA7 (io), 6 PC0 (io), 7 PC1 (io), 8 PC2 (io), 9 PC3 (io), 10 VDDIO2 (power), 11 PD1 (io), 12 PD2 (io), 13 PD3 (io), 14 PD4 (io), 15 PD5 (io), 16 PD6 (io), 17 VREFA/PD7 (io), 18 AVDD (power), 19 AGND (power), 20 XTAL32K1/PF0 (io), 21 XTAL32K2/PF1 (io), 22 PF2 (io), 23 PF3 (io), 24 PF4 (io), 25 PF5 (io), 26 ~{{RESET}/PF6} (io), 27 UPDI (in), 28 VDD (power), 29 GND (power), 30 XTALHF1/PA0 (io), 31 XTALHF2/PA1 (io), 32 PA2 (io)

## AVR128DB32x-xRXB
designator *  value AVR128DB32x-xRXB
ki_keywords: AVR 8bit Microcontroller AVR-DB; ki_description: 24MHz, 128kB Flash, 16kB SRAM, EEPROM with Op Amps and Multi-Voltage I/O, VQFN-32; ki_fp_filters: QFN*1EP*5x5mm*P0.5mm*EP3.1x3.1mm*; Footprint: Package_DFN_QFN:QFN-32-1EP_5x5mm_P0.5mm_EP3.1x3.1mm; Supplier: https://ww1.microchip.com/downloads/en/DeviceDoc/AVR128DB28-32-48-64-DataSheet-DS40002247A.pdf
footprint QFN-32-1EP_5x5mm_P0.5mm_EP3.1x3.1mm
pins: 1 PA3 (io), 2 PA4 (io), 3 PA5 (io), 4 PA6 (io), 5 PA7 (io), 6 PC0 (io), 7 PC1 (io), 8 PC2 (io), 9 PC3 (io), 10 VDDIO2 (power), 11 PD1 (io), 12 PD2 (io), 13 PD3 (io), 14 PD4 (io), 15 PD5 (io), 16 PD6 (io), 17 VREFA/PD7 (io), 18 AVDD (power), 19 AGND (power), 20 XTAL32K1/PF0 (io), 21 XTAL32K2/PF1 (io), 22 PF2 (io), 23 PF3 (io), 24 PF4 (io), 25 PF5 (io), 26 ~{{RESET}/PF6} (io), 27 UPDI (in), 28 VDD (power), 29 GND (power), 30 XTALHF1/PA0 (io), 31 XTALHF2/PA1 (io), 32 PA2 (io), 33 GND hidden

## AVR128DB48x-x6LX
designator *  value AVR128DB48x-x6LX
ki_keywords: AVR 8bit Microcontroller AVR-DB; ki_description: 24MHz, 128kB Flash, 16kB SRAM, EEPROM with Op Amps and Multi-Voltage I/O, VQFN-48; ki_fp_filters: QFN*1EP*6x6mm*P0.4mm*EP4.2x4.2mm*; Footprint: Package_DFN_QFN:QFN-48-1EP_6x6mm_P0.4mm_EP4.2x4.2mm; Supplier: https://ww1.microchip.com/downloads/en/DeviceDoc/AVR128DB28-32-48-64-DataSheet-DS40002247A.pdf
footprint QFN-48-1EP_6x6mm_P0.4mm_EP4.2x4.2mm
pins: 1 PA5 (io), 2 PA6 (io), 3 PA7 (io), 4 PB0 (io), 5 PB1 (io), 6 PB2 (io), 7 PB3 (io), 8 PB4 (io), 9 PB5 (io), 10 PC0 (io), 11 PC1 (io), 12 PC2 (io), 13 PC3 (io), 14 VDDIO2 (power), 15 GND (power), 16 PC4 (io), 17 PC5 (io), 18 PC6 (io), 19 PC7 (io), 20 PD0 (io), 21 PD1 (io), 22 PD2 (io), 23 PD3 (io), 24 PD4 (io), 25 PD5 (io), 26 PD6 (io), 27 VREFA/PD7 (io), 28 AVDD (power), 29 AGND (power), 30 PE0 (io), 31 PE1 (io), 32 PE2 (io), 33 PE3 (io), 34 XTAL32K1/PF0 (io), 35 XTAL32K2/PF1 (io), 36 PF2 (io), 37 PF3 (io), 38 PF4 (io), 39 PF5 (io), 40 ~{{RESET}/PF6} (io), 41 UPDI (in), 42 VDD (power), 43 GND hidden, 44 XTALHF1/PA0 (io), 45 XTALHF2/PA1 (io), 46 PA2 (io), 47 PA3 (io), 48 PA4 (io), 49 GND hidden

## AVR128DB48x-xPT
designator *  value AVR128DB48x-xPT
ki_keywords: AVR 8bit Microcontroller AVR-DB; ki_description: 24MHz, 128kB Flash, 16kB SRAM, EEPROM with Op Amps and Multi-Voltage I/O, TQFP-48; ki_fp_filters: TQFP*7x7mm*P0.5mm*; Footprint: Package_QFP:TQFP-48_7x7mm_P0.5mm; Supplier: https://ww1.microchip.com/downloads/en/DeviceDoc/AVR128DB28-32-48-64-DataSheet-DS40002247A.pdf
footprint TQFP-48_7x7mm_P0.5mm
pins: 1 PA5 (io), 2 PA6 (io), 3 PA7 (io), 4 PB0 (io), 5 PB1 (io), 6 PB2 (io), 7 PB3 (io), 8 PB4 (io), 9 PB5 (io), 10 PC0 (io), 11 PC1 (io), 12 PC2 (io), 13 PC3 (io), 14 VDDIO2 (power), 15 GND (power), 16 PC4 (io), 17 PC5 (io), 18 PC6 (io), 19 PC7 (io), 20 PD0 (io), 21 PD1 (io), 22 PD2 (io), 23 PD3 (io), 24 PD4 (io), 25 PD5 (io), 26 PD6 (io), 27 VREFA/PD7 (io), 28 AVDD (power), 29 AGND (power), 30 PE0 (io), 31 PE1 (io), 32 PE2 (io), 33 PE3 (io), 34 XTAL32K1/PF0 (io), 35 XTAL32K2/PF1 (io), 36 PF2 (io), 37 PF3 (io), 38 PF4 (io), 39 PF5 (io), 40 ~{{RESET}/PF6} (io), 41 UPDI (in), 42 VDD (power), 43 GND hidden, 44 XTALHF1/PA0 (io), 45 XTALHF2/PA1 (io), 46 PA2 (io), 47 PA3 (io), 48 PA4 (io)

## AVR128DB64x-xMR
designator *  value AVR128DB64x-xMR
ki_keywords: AVR 8bit Microcontroller AVR-DB; ki_description: 24MHz, 128kB Flash, 16kB SRAM, EEPROM with Op Amps and Multi-Voltage I/O, VQFN-64; ki_fp_filters: VQFN*1EP*9x9mm*P0.5mm*EP7.15x7.15mm*; Footprint: Package_DFN_QFN:VQFN-64-1EP_9x9mm_P0.5mm_EP7.15x7.15mm; Supplier: https://ww1.microchip.com/downloads/en/DeviceDoc/AVR128DB28-32-48-64-DataSheet-DS40002247A.pdf
footprint VQFN-64-1EP_9x9mm_P0.5mm_EP7.15x7.15mm
pins: 1 PA3 (io), 2 PA4 (io), 3 PA5 (io), 4 PA6 (io), 5 PA7 (io), 6 VDD (power), 7 GND (power), 8 PB0 (io), 9 PB1 (io), 10 PB2 (io), 11 PB3 (io), 12 PB4 (io), 13 PB5 (io), 14 PB6 (io), 15 PB7 (io), 16 PC0 (io), 17 PC1 (io), 18 PC2 (io), 19 PC3 (io), 20 VDDIO2 (power), 21 GND hidden, 22 PC4 (io), 23 PC5 (io), 24 PC6 (io), 25 PC7 (io), 26 PD0 (io), 27 PD1 (io), 28 PD2 (io), 29 PD3 (io), 30 PD4 (io), 31 PD5 (io), 32 PD6 (io), 33 VREFA/PD7 (io), 34 AVDD (power), 35 AGND (power), 36 PE0 (io), 37 PE1 (io), 38 PE2 (io), 39 PE3 (io), 40 PE4 (io), 41 PE5 (io), 42 PE6 (io), 43 PE7 (io), 44 XTAL32K1/PF0 (io), 45 XTAL32K2/PF1 (io), 46 PF2 (io), 47 PF3 (io), 48 PF4 (io), 49 PF5 (io), 50 ~{{RESET}/PF6} (io), 51 UPDI (in), 52 PG0 (io), 53 PG1 (io), 54 PG2 (io), 55 PG3 (io), 56 VDD hidden, 57 GND hidden, 58 PG4 (io), 59 PG5 (io), 60 PG6 (io), 61 PG7 (io), 62 XTALHF1/PA0 (io), 63 XTALHF2/PA1 (io), 64 PA2 (io), 65 GND hidden